# Altium integrated library NXP Semiconductors Cortex-M3.IntLib: 68 symbols (part 5 of 8)
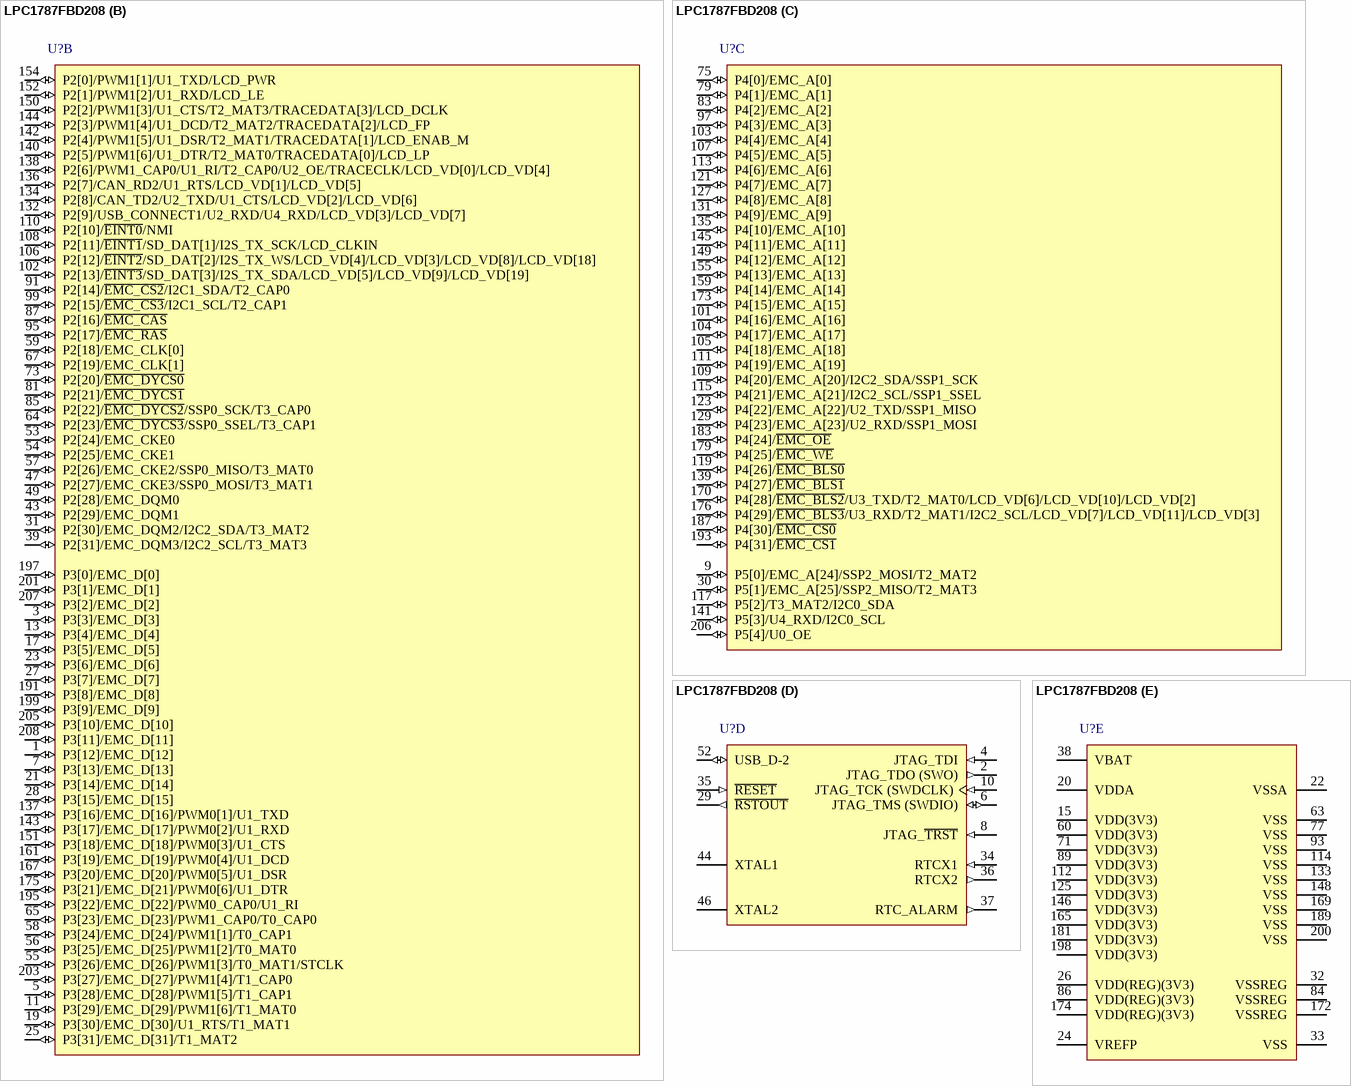
[diagram p53: symbol LPC1787FBD208]

## LPC1787FBD208
designator U?
32-bit ARM Cortex-M3 MCU, 512 kB Flash, 96 kB SRAM, 4 kB EEPROM, USB 2.0 Host/OTG/Device, CAN, 12-Bit ADC, LCD, SD/MMC, QEI, 208-Pin LQFP; fmax: 120 MHz; SRAM: 96 kB; Flash: 512 kB; EEPROM: 4 kB; GPIOs: 165; USB: 1; CAN: 2; UART: 5; I2C: 3; PWM: 6; PLL: Y; ADC channels: 8; Timers: 4; VDD (min): 2.4 V; VDD (typ): 3.3 V; VDD (max): 3.6 V; Code_IEC: 136E30; DatasheetVersion: Rev. 3, Dec-2011; PackageVersion: Feb-2003; PackageReference: SOT459-1; PackageDescription: LQFP208; Plastic Low Profile Quad Flat Package; 208 Leads; Body 28 x 28 x 1.4 mm; SSP: 3; Code_JEDEC: MS-026; ComponentLink1Description: Manufacturer URL; ComponentLink1URL: http://www.nxp.com/; ComponentLink2Description: Datasheet; ComponentLink2URL: http://www.nxp.com/documents/data_sheet/LPC178X_7X.pdf
footprint SOT459-1_V (Thin QFP, 208-Leads, Body 28x28mm, Pitch 0.5mm, NXP Recommended)
footprint SOT459-1_N (Thin QFP, 208-Leads, Body 28x28mm, Pitch 0.5mm, IPC Medium Density)
footprint SOT459-1_L (Thin QFP, 208-Leads, Body 28x28mm, Pitch 0.5mm, IPC High Density)
footprint SOT459-1_M (Thin QFP, 208-Leads, Body 28x28mm, Pitch 0.5mm, IPC Low Density)
part A pins: 12 P0[26]/ADC0_IN[3]/DAC_OUT/U3_RXD (io), 14 P0[25]/ADC0_IN[2]/I2S_RX_SDA/U3_TXD (io), 16 P0[24]/ADC0_IN[1]/I2S_RX_WS/T3_CAP1 (io), 18 P0[23]/ADC0_IN[0]/I2S_RX_SCK/T3_CAP0 (io), 40 P1[31]/~{USB_OVRCR2}/SSP1_SCK/ADC0_IN[5]/I2C0_SCL (io), 41 P0[12]/USB_PPWR2/SSP1_MISO/ADC0_IN[6] (io), 42 P1[30]/USB_PWRD2/USB_VBUS/ADC0_IN[4]/I2C0_SDA/U3_OE (io), 45 P0[13]/USB_UP_LED2/SSP1_MOSI/ADC0_IN[7] (io), 48 P0[28]/I2C0_SCL/USB_SCL1 (io), 50 P0[27]/I2C0_SDA/USB_SDA1 (io), 51 P0[31]/USB_D+2 (io), 61 P0[29]/USB_D+1/~{EINT0} (io), 62 P0[30]/USB_D-1/~{EINT1} (io), 66 P1[18]/USB_UP_LED1/PWM1[1]/T1_CAP0/SSP1_MISO (io), 68 P1[19]/~{USB_TX_E1}/~{USB_PPWR1}/T1_CAP1/MC_0A/SSP1_SCK/U2_OE (io), 69 P0[14]/USB_HSTEN2/SSP1_SSEL/USB_CONNECT2 (io), 70 P1[20]/USB_TX_DP1/PWM1[2]/QEI_PHA/MC_FB0/SSP0_SCK/LCD_VD[6]/LCD_VD[10] (io), 72 P1[21]/USB_TX_DM1/PWM1[3]/SSP0_SSEL/~{MC_ABORT}/LCD_VD[7]/LCD_VD[11] (io), 74 P1[22]/USB_RCV1/USB_PWRD1/T1_MAT0/MC_0B/SSP1_MOSI/LCD_VD[8]/LCD_VD[12] (io), 76 P1[23]/USB_RX_DP1/PWM1[4]/QEI_PHB/MC_FB1/SSP0_MISO/LCD_VD[9]/LCD_VD[13] (io), 78 P1[24]/USB_RX_DM1/PWM1[5]/QEI_IDX/MC_FB2/SSP0_MOSI/LCD_VD[10]/LCD_VD[14] (io), 80 P1[25]/~{USB_LS1}/~{USB_HSTEN1}/T1_MAT1/MC_1A/CLKOUT/LCD_VD[11]/LCD_VD[15] (io), 82 P1[26]/USB_SSPND1/PWM1[6]/T0_CAP0/MC_1B/SSP1_SSEL/LCD_VD[12]/LCD_VD[20] (io), 88 P1[27]/~{USB_INT1}/~{USB_OVRCR1}/T0_CAP1/CLKOUT/LCD_VD[13]/LCD_VD[21] (io), 90 P1[28]/USB_SCL1/PWM1_CAP0/T0_MAT0/MC_2A/SSP0_SSEL/LCD_VD[14]/LCD_VD[22] (io), 92 P1[29]/USB_SDA1/PWM1_CAP1/T0_MAT1/MC_2B/U4_TXD/LCD_VD[15]/LCD_VD[23] (io), 94 P0[0]/CAN_RD1/U3_TXD/I2C1_SDA/U0_TXD (io), 96 P0[1]/CAN_TD1/U3_RXD/I2C1_SCL/U0_RXD (io), 98 P0[10]/U2_TXD/I2C2_SDA/T3_MAT0 (io), 100 P0[11]/U2_RXD/I2C2_SCL/T3_MAT1 (io), 116 P0[22]/U1_RTS/SD_DAT[0]/U4_TXD/CAN_TD1 (io), 118 P0[21]/U1_RI/SD_PWR/U4_OE/CAN_RD1/U4_SCLK (io), 120 P0[20]/U1_DTR/UART1/SD_CMD/I2C1_SCL (io), 122 P0[19]/U1_DSR/SD_CLK/I2C1_SDA (io), 124 P0[18]/U1_DCD/SSP0_MOSI (io), 126 P0[17]/U1_CTS/SSP0_MISO (io), 128 P0[15]/U1_TXD/SSP0_SCK (io), 130 P0[16]/U1_RXD/SSP0_SSEL (io), 147 P1[13] (io), 153 P1[7]/SD_DAT[1]/PWM0[5] (io), 156 P1[5]/SD_PWR/PWM0[3] (io), 157 P1[12]/SD_DAT[3]/PWM0_CAP0 (io), 158 P0[9]/I2S_TX_SDA/SSP1_MOSI/T2_MAT3/RTC_EV2/LCD_VD[17] (io), 160 P0[8]/I2S_TX_WS/SSP1_MISO/T2_MAT2/RTC_EV1/LCD_VD[16] (io), 162 P0[7]/I2S_TX_SCK/SSP1_SCK/T2_MAT1/RTC_EV0/LCD_VD[9] (io), 163 P1[11]/SD_DAT[2]/PWM0[6] (io), 164 P0[6]/I2S_RX_SDA/SSP1_SSEL/T2_MAT0/U1_RTS/LCD_VD[8] (io), 166 P0[5]/I2S_RX_WS/CAN_TD2/T2_CAP1/LCD_VD[1] (io), 168 P0[4]/I2S_RX_SCK/CAN_RD2/T2_CAP0/LCD_VD[0] (io), 171 P1[6]/SD_DAT[0]/PWM0[4] (io), 177 P1[3]/SD_CMD/PWM0[2] (io), 178 P1[17]/I2S_RX_MCLK (io), 180 P1[16]/I2S_TX_MCLK (io), 182 P1[15]/I2C2_SDA (io), 184 P1[14]/T2_CAP0 (io), 185 P1[2]/SD_CLK/PWM0[1] (io), 186 P1[10]/T3_CAP0 (io), 188 P1[9]/T3_MAT0 (io), 190 P1[8]/T3_MAT1/SSP2_SSEL (io), 192 P1[4]/T3_MAT2/SSP2_MISO (io), 194 P1[1]/T3_MAT3/SSP2_MOSI (io), 196 P1[0]/T3_CAP1/SSP2_SCK (io), 202 P0[2]/U0_TXD/U3_TXD (io), 204 P0[3]/U0_RXD/U3_RXD (io)
part B pins: 1 P3[12]/EMC_D[12] (io), 3 P3[3]/EMC_D[3] (io), 5 P3[28]/EMC_D[28]/PWM1[5]/T1_CAP1 (io), 7 P3[13]/EMC_D[13] (io), 11 P3[29]/EMC_D[29]/PWM1[6]/T1_MAT0 (io), 13 P3[4]/EMC_D[4] (io), 17 P3[5]/EMC_D[5] (io), 19 P3[30]/EMC_D[30]/U1_RTS/T1_MAT1 (io), 21 P3[14]/EMC_D[14] (io), 23 P3[6]/EMC_D[6] (io), 25 P3[31]/EMC_D[31]/T1_MAT2 (io), 27 P3[7]/EMC_D[7] (io), 28 P3[15]/EMC_D[15] (io), 31 P2[30]/EMC_DQM2/I2C2_SDA/T3_MAT2 (io), 39 P2[31]/EMC_DQM3/I2C2_SCL/T3_MAT3 (io), 43 P2[29]/EMC_DQM1 (io), 47 P2[27]/EMC_CKE3/SSP0_MOSI/T3_MAT1 (io), 49 P2[28]/EMC_DQM0 (io), 53 P2[24]/EMC_CKE0 (io), 54 P2[25]/EMC_CKE1 (io), 55 P3[26]/EMC_D[26]/PWM1[3]/T0_MAT1/STCLK (io), 56 P3[25]/EMC_D[25]/PWM1[2]/T0_MAT0 (io), 57 P2[26]/EMC_CKE2/SSP0_MISO/T3_MAT0 (io), 58 P3[24]/EMC_D[24]/PWM1[1]/T0_CAP1 (io), 59 P2[18]/EMC_CLK[0] (io), 64 P2[23]/~{EMC_DYCS3}/SSP0_SSEL/T3_CAP1 (io), 65 P3[23]/EMC_D[23]/PWM1_CAP0/T0_CAP0 (io), 67 P2[19]/EMC_CLK[1] (io), 73 P2[20]/~{EMC_DYCS0} (io), 81 P2[21]/~{EMC_DYCS1} (io), 85 P2[22]/~{EMC_DYCS2}/SSP0_SCK/T3_CAP0 (io), 87 P2[16]/~{EMC_CAS} (io), 91 P2[14]/~{EMC_CS2}/I2C1_SDA/T2_CAP0 (io), 95 P2[17]/~{EMC_RAS} (io), 99 P2[15]/~{EMC_CS3}/I2C1_SCL/T2_CAP1 (io), 102 P2[13]/~{EINT3}/SD_DAT[3]/I2S_TX_SDA/LCD_VD[5]/LCD_VD[9]/LCD_VD[19] (io), 106 P2[12]/~{EINT2}/SD_DAT[2]/I2S_TX_WS/LCD_VD[4]/LCD_VD[3]/LCD_VD[8]/LCD_VD[18] (io), 108 P2[11]/~{EINT1}/SD_DAT[1]/I2S_TX_SCK/LCD_CLKIN (io), 110 P2[10]/~{EINT0}/NMI (io), 132 P2[9]/USB_CONNECT1/U2_RXD/U4_RXD/LCD_VD[3]/LCD_VD[7] (io), 134 P2[8]/CAN_TD2/U2_TXD/U1_CTS/LCD_VD[2]/LCD_VD[6] (io), 136 P2[7]/CAN_RD2/U1_RTS/LCD_VD[1]/LCD_VD[5] (io), 137 P3[16]/EMC_D[16]/PWM0[1]/U1_TXD (io), 138 P2[6]/PWM1_CAP0/U1_RI/T2_CAP0/U2_OE/TRACECLK/LCD_VD[0]/LCD_VD[4] (io), 140 P2[5]/PWM1[6]/U1_DTR/T2_MAT0/TRACEDATA[0]/LCD_LP (io), 142 P2[4]/PWM1[5]/U1_DSR/T2_MAT1/TRACEDATA[1]/LCD_ENAB_M (io), 143 P3[17]/EMC_D[17]/PWM0[2]/U1_RXD (io), 144 P2[3]/PWM1[4]/U1_DCD/T2_MAT2/TRACEDATA[2]/LCD_FP (io), 150 P2[2]/PWM1[3]/U1_CTS/T2_MAT3/TRACEDATA[3]/LCD_DCLK (io), 151 P3[18]/EMC_D[18]/PWM0[3]/U1_CTS (io), 152 P2[1]/PWM1[2]/U1_RXD/LCD_LE (io), 154 P2[0]/PWM1[1]/U1_TXD/LCD_PWR (io), 161 P3[19]/EMC_D[19]/PWM0[4]/U1_DCD (io), 167 P3[20]/EMC_D[20]/PWM0[5]/U1_DSR (io), 175 P3[21]/EMC_D[21]/PWM0[6]/U1_DTR (io), 191 P3[8]/EMC_D[8] (io), 195 P3[22]/EMC_D[22]/PWM0_CAP0/U1_RI (io), 197 P3[0]/EMC_D[0] (io), 199 P3[9]/EMC_D[9] (io), 201 P3[1]/EMC_D[1] (io), 203 P3[27]/EMC_D[27]/PWM1[4]/T1_CAP0 (io), 205 P3[10]/EMC_D[10] (io), 207 P3[2]/EMC_D[2] (io), 208 P3[11]/EMC_D[11] (io)
part C pins: 9 P5[0]/EMC_A[24]/SSP2_MOSI/T2_MAT2 (io), 30 P5[1]/EMC_A[25]/SSP2_MISO/T2_MAT3 (io), 75 P4[0]/EMC_A[0] (io), 79 P4[1]/EMC_A[1] (io), 83 P4[2]/EMC_A[2] (io), 97 P4[3]/EMC_A[3] (io), 101 P4[16]/EMC_A[16] (io), 103 P4[4]/EMC_A[4] (io), 104 P4[17]/EMC_A[17] (io), 105 P4[18]/EMC_A[18] (io), 107 P4[5]/EMC_A[5] (io), 109 P4[20]/EMC_A[20]/I2C2_SDA/SSP1_SCK (io), 111 P4[19]/EMC_A[19] (io), 113 P4[6]/EMC_A[6] (io), 115 P4[21]/EMC_A[21]/I2C2_SCL/SSP1_SSEL (io), 117 P5[2]/T3_MAT2/I2C0_SDA (io), 119 P4[26]/~{EMC_BLS0} (io), 121 P4[7]/EMC_A[7] (io), 123 P4[22]/EMC_A[22]/U2_TXD/SSP1_MISO (io), 127 P4[8]/EMC_A[8] (io), 129 P4[23]/EMC_A[23]/U2_RXD/SSP1_MOSI (io), 131 P4[9]/EMC_A[9] (io), 135 P4[10]/EMC_A[10] (io), 139 P4[27]/~{EMC_BLS1} (io), 141 P5[3]/U4_RXD/I2C0_SCL (io), 145 P4[11]/EMC_A[11] (io), 149 P4[12]/EMC_A[12] (io), 155 P4[13]/EMC_A[13] (io), 159 P4[14]/EMC_A[14] (io), 170 P4[28]/~{EMC_BLS2}/U3_TXD/T2_MAT0/LCD_VD[6]/LCD_VD[10]/LCD_VD[2] (io), 173 P4[15]/EMC_A[15] (io), 176 P4[29]/~{EMC_BLS3}/U3_RXD/T2_MAT1/I2C2_SCL/LCD_VD[7]/LCD_VD[11]/LCD_VD[3] (io), 179 P4[25]/~{EMC_WE} (io), 183 P4[24]/~{EMC_OE} (io), 187 P4[30]/~{EMC_CS0} (io), 193 P4[31]/~{EMC_CS1} (io), 206 P5[4]/U0_OE (io)
part D pins: 2 JTAG_TDO (SWO) (out), 4 JTAG_TDI (in), 6 JTAG_TMS (SWDIO) (io), 8 JTAG_~{TRST} (in), 10 JTAG_TCK (SWDCLK) (in), 29 ~{RSTOUT} (out), 34 RTCX1 (in), 35 ~{RESET} (in), 36 RTCX2 (out), 37 RTC_ALARM (out), 44 XTAL1, 46 XTAL2, 52 USB_D-2 (io)
part E pins: 15 VDD(3V3) (power), 20 VDDA (power), 22 VSSA (power), 24 VREFP (power), 26 VDD(REG)(3V3) (power), 32 VSSREG (power), 33 VSS (power), 38 VBAT (power), 60 VDD(3V3) (power), 63 VSS (power), 71 VDD(3V3) (power), 77 VSS (power), 84 VSSREG (power), 86 VDD(REG)(3V3) (power), 89 VDD(3V3) (power), 93 VSS (power), 112 VDD(3V3) (power), 114 VSS (power), 125 VDD(3V3) (power), 133 VSS (power), 146 VDD(3V3) (power), 148 VSS (power), 165 VDD(3V3) (power), 169 VSS (power), 172 VSSREG (power), 174 VDD(REG)(3V3) (power), 181 VDD(3V3) (power), 189 VSS (power), 198 VDD(3V3) (power), 200 VSS (power)

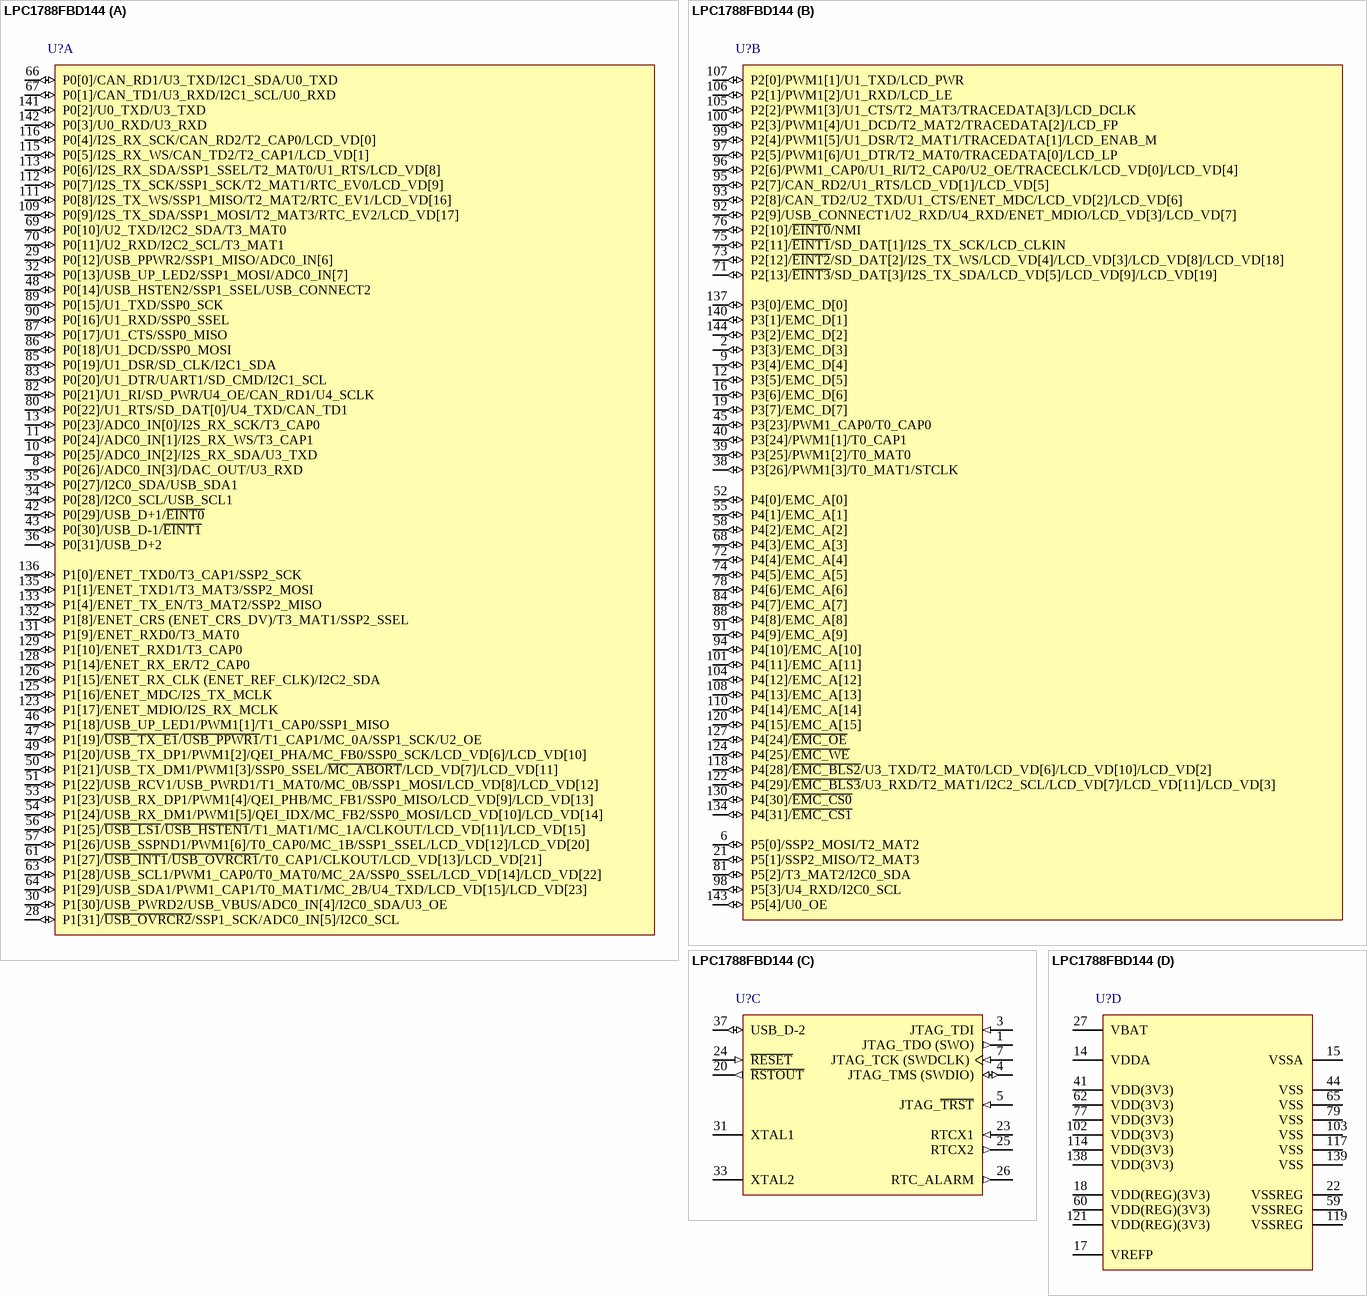
[diagram p27: symbol LPC1788FBD144]

## LPC1788FBD144
designator U?
32-bit ARM Cortex-M3 MCU, 512 kB Flash, 96 kB SRAM, 4 kB EEPROM, Ethernet, USB 2.0 Host/OTG/Device, CAN, 12-Bit ADC, LCD, SD/MMC, 144-Pin LQFP; fmax: 120 MHz; SRAM: 96 kB; Flash: 512 kB; EEPROM: 4 kB; GPIOs: 109; USB: 1; CAN: 2; UART: 5; I2C: 3; PWM: 6; PLL: Y; ADC channels: 8; Timers: 4; VDD (min): 2.4 V; VDD (typ): 3.3 V; VDD (max): 3.6 V; Code_IEC: 136E23; DatasheetVersion: Rev. 3, Dec-2011; PackageVersion: Feb-2003; PackageReference: SOT486-1; PackageDescription: LQFP144: Plastic Low Profile Quad Flat Package; 144 Leads; Body 20 x 20 x 1.4 mm; SSP: 3; Code_JEDEC: MS-026; ComponentLink1Description: Manufacturer URL; ComponentLink1URL: http://www.nxp.com/; ComponentLink2Description: Datasheet; ComponentLink2URL: http://www.nxp.com/documents/data_sheet/LPC178X_7X.pdf
footprint SOT486-1_V (Thin QFP, 144-Leads, Body 20x20mm, Pitch 0.5mm, NXP Recommended)
footprint SOT486-1_N (Thin QFP, 144-Leads, Body 20x20mm, Pitch 0.5mm, IPC Medium Density)
footprint SOT486-1_L (Thin QFP, 144-Leads, Body 20x20mm, Pitch 0.5mm, IPC High Density)
footprint SOT486-1_M (Thin QFP, 144-Leads, Body 20x20mm, Pitch 0.5mm, IPC Low Density)
part A pins: 8 P0[26]/ADC0_IN[3]/DAC_OUT/U3_RXD (io), 10 P0[25]/ADC0_IN[2]/I2S_RX_SDA/U3_TXD (io), 11 P0[24]/ADC0_IN[1]/I2S_RX_WS/T3_CAP1 (io), 13 P0[23]/ADC0_IN[0]/I2S_RX_SCK/T3_CAP0 (io), 28 P1[31]/~{USB_OVRCR2}/SSP1_SCK/ADC0_IN[5]/I2C0_SCL (io), 29 P0[12]/USB_PPWR2/SSP1_MISO/ADC0_IN[6] (io), 30 P1[30]/USB_PWRD2/USB_VBUS/ADC0_IN[4]/I2C0_SDA/U3_OE (io), 32 P0[13]/USB_UP_LED2/SSP1_MOSI/ADC0_IN[7] (io), 34 P0[28]/I2C0_SCL/USB_SCL1 (io), 35 P0[27]/I2C0_SDA/USB_SDA1 (io), 36 P0[31]/USB_D+2 (io), 42 P0[29]/USB_D+1/~{EINT0} (io), 43 P0[30]/USB_D-1/~{EINT1} (io), 46 P1[18]/USB_UP_LED1/PWM1[1]/T1_CAP0/SSP1_MISO (io), 47 P1[19]/~{USB_TX_E1}/~{USB_PPWR1}/T1_CAP1/MC_0A/SSP1_SCK/U2_OE (io), 48 P0[14]/USB_HSTEN2/SSP1_SSEL/USB_CONNECT2 (io), 49 P1[20]/USB_TX_DP1/PWM1[2]/QEI_PHA/MC_FB0/SSP0_SCK/LCD_VD[6]/LCD_VD[10] (io), 50 P1[21]/USB_TX_DM1/PWM1[3]/SSP0_SSEL/~{MC_ABORT}/LCD_VD[7]/LCD_VD[11] (io), 51 P1[22]/USB_RCV1/USB_PWRD1/T1_MAT0/MC_0B/SSP1_MOSI/LCD_VD[8]/LCD_VD[12] (io), 53 P1[23]/USB_RX_DP1/PWM1[4]/QEI_PHB/MC_FB1/SSP0_MISO/LCD_VD[9]/LCD_VD[13] (io), 54 P1[24]/USB_RX_DM1/PWM1[5]/QEI_IDX/MC_FB2/SSP0_MOSI/LCD_VD[10]/LCD_VD[14] (io), 56 P1[25]/~{USB_LS1}/~{USB_HSTEN1}/T1_MAT1/MC_1A/CLKOUT/LCD_VD[11]/LCD_VD[15] (io), 57 P1[26]/USB_SSPND1/PWM1[6]/T0_CAP0/MC_1B/SSP1_SSEL/LCD_VD[12]/LCD_VD[20] (io), 61 P1[27]/~{USB_INT1}/~{USB_OVRCR1}/T0_CAP1/CLKOUT/LCD_VD[13]/LCD_VD[21] (io), 63 P1[28]/USB_SCL1/PWM1_CAP0/T0_MAT0/MC_2A/SSP0_SSEL/LCD_VD[14]/LCD_VD[22] (io), 64 P1[29]/USB_SDA1/PWM1_CAP1/T0_MAT1/MC_2B/U4_TXD/LCD_VD[15]/LCD_VD[23] (io), 66 P0[0]/CAN_RD1/U3_TXD/I2C1_SDA/U0_TXD (io), 67 P0[1]/CAN_TD1/U3_RXD/I2C1_SCL/U0_RXD (io), 69 P0[10]/U2_TXD/I2C2_SDA/T3_MAT0 (io), 70 P0[11]/U2_RXD/I2C2_SCL/T3_MAT1 (io), 80 P0[22]/U1_RTS/SD_DAT[0]/U4_TXD/CAN_TD1 (io), 82 P0[21]/U1_RI/SD_PWR/U4_OE/CAN_RD1/U4_SCLK (io), 83 P0[20]/U1_DTR/UART1/SD_CMD/I2C1_SCL (io), 85 P0[19]/U1_DSR/SD_CLK/I2C1_SDA (io), 86 P0[18]/U1_DCD/SSP0_MOSI (io), 87 P0[17]/U1_CTS/SSP0_MISO (io), 89 P0[15]/U1_TXD/SSP0_SCK (io), 90 P0[16]/U1_RXD/SSP0_SSEL (io), 109 P0[9]/I2S_TX_SDA/SSP1_MOSI/T2_MAT3/RTC_EV2/LCD_VD[17] (io), 111 P0[8]/I2S_TX_WS/SSP1_MISO/T2_MAT2/RTC_EV1/LCD_VD[16] (io), 112 P0[7]/I2S_TX_SCK/SSP1_SCK/T2_MAT1/RTC_EV0/LCD_VD[9] (io), 113 P0[6]/I2S_RX_SDA/SSP1_SSEL/T2_MAT0/U1_RTS/LCD_VD[8] (io), 115 P0[5]/I2S_RX_WS/CAN_TD2/T2_CAP1/LCD_VD[1] (io), 116 P0[4]/I2S_RX_SCK/CAN_RD2/T2_CAP0/LCD_VD[0] (io), 123 P1[17]/ENET_MDIO/I2S_RX_MCLK (io), 125 P1[16]/ENET_MDC/I2S_TX_MCLK (io), 126 P1[15]/ENET_RX_CLK (ENET_REF_CLK)/I2C2_SDA (io), 128 P1[14]/ENET_RX_ER/T2_CAP0 (io), 129 P1[10]/ENET_RXD1/T3_CAP0 (io), 131 P1[9]/ENET_RXD0/T3_MAT0 (io), 132 P1[8]/ENET_CRS (ENET_CRS_DV)/T3_MAT1/SSP2_SSEL (io), 133 P1[4]/ENET_TX_EN/T3_MAT2/SSP2_MISO (io), 135 P1[1]/ENET_TXD1/T3_MAT3/SSP2_MOSI (io), 136 P1[0]/ENET_TXD0/T3_CAP1/SSP2_SCK (io), 141 P0[2]/U0_TXD/U3_TXD (io), 142 P0[3]/U0_RXD/U3_RXD (io)
part B pins: 2 P3[3]/EMC_D[3] (io), 6 P5[0]/SSP2_MOSI/T2_MAT2 (io), 9 P3[4]/EMC_D[4] (io), 12 P3[5]/EMC_D[5] (io), 16 P3[6]/EMC_D[6] (io), 19 P3[7]/EMC_D[7] (io), 21 P5[1]/SSP2_MISO/T2_MAT3 (io), 38 P3[26]/PWM1[3]/T0_MAT1/STCLK (io), 39 P3[25]/PWM1[2]/T0_MAT0 (io), 40 P3[24]/PWM1[1]/T0_CAP1 (io), 45 P3[23]/PWM1_CAP0/T0_CAP0 (io), 52 P4[0]/EMC_A[0] (io), 55 P4[1]/EMC_A[1] (io), 58 P4[2]/EMC_A[2] (io), 68 P4[3]/EMC_A[3] (io), 71 P2[13]/~{EINT3}/SD_DAT[3]/I2S_TX_SDA/LCD_VD[5]/LCD_VD[9]/LCD_VD[19] (io), 72 P4[4]/EMC_A[4] (io), 73 P2[12]/~{EINT2}/SD_DAT[2]/I2S_TX_WS/LCD_VD[4]/LCD_VD[3]/LCD_VD[8]/LCD_VD[18] (io), 74 P4[5]/EMC_A[5] (io), 75 P2[11]/~{EINT1}/SD_DAT[1]/I2S_TX_SCK/LCD_CLKIN (io), 76 P2[10]/~{EINT0}/NMI (io), 78 P4[6]/EMC_A[6] (io), 81 P5[2]/T3_MAT2/I2C0_SDA (io), 84 P4[7]/EMC_A[7] (io), 88 P4[8]/EMC_A[8] (io), 91 P4[9]/EMC_A[9] (io), 92 P2[9]/USB_CONNECT1/U2_RXD/U4_RXD/ENET_MDIO/LCD_VD[3]/LCD_VD[7] (io), 93 P2[8]/CAN_TD2/U2_TXD/U1_CTS/ENET_MDC/LCD_VD[2]/LCD_VD[6] (io), 94 P4[10]/EMC_A[10] (io), 95 P2[7]/CAN_RD2/U1_RTS/LCD_VD[1]/LCD_VD[5] (io), 96 P2[6]/PWM1_CAP0/U1_RI/T2_CAP0/U2_OE/TRACECLK/LCD_VD[0]/LCD_VD[4] (io), 97 P2[5]/PWM1[6]/U1_DTR/T2_MAT0/TRACEDATA[0]/LCD_LP (io), 98 P5[3]/U4_RXD/I2C0_SCL (io), 99 P2[4]/PWM1[5]/U1_DSR/T2_MAT1/TRACEDATA[1]/LCD_ENAB_M (io), 100 P2[3]/PWM1[4]/U1_DCD/T2_MAT2/TRACEDATA[2]/LCD_FP (io), 101 P4[11]/EMC_A[11] (io), 104 P4[12]/EMC_A[12] (io), 105 P2[2]/PWM1[3]/U1_CTS/T2_MAT3/TRACEDATA[3]/LCD_DCLK (io), 106 P2[1]/PWM1[2]/U1_RXD/LCD_LE (io), 107 P2[0]/PWM1[1]/U1_TXD/LCD_PWR (io), 108 P4[13]/EMC_A[13] (io), 110 P4[14]/EMC_A[14] (io), 118 P4[28]/~{EMC_BLS2}/U3_TXD/T2_MAT0/LCD_VD[6]/LCD_VD[10]/LCD_VD[2] (io), 120 P4[15]/EMC_A[15] (io), 122 P4[29]/~{EMC_BLS3}/U3_RXD/T2_MAT1/I2C2_SCL/LCD_VD[7]/LCD_VD[11]/LCD_VD[3] (io), 124 P4[25]/~{EMC_WE} (io), 127 P4[24]/~{EMC_OE} (io), 130 P4[30]/~{EMC_CS0} (io), 134 P4[31]/~{EMC_CS1} (io), 137 P3[0]/EMC_D[0] (io), 140 P3[1]/EMC_D[1] (io), 143 P5[4]/U0_OE (io), 144 P3[2]/EMC_D[2] (io)
part C pins: 1 JTAG_TDO (SWO) (out), 3 JTAG_TDI (in), 4 JTAG_TMS (SWDIO) (io), 5 JTAG_~{TRST} (in), 7 JTAG_TCK (SWDCLK) (in), 20 ~{RSTOUT} (out), 23 RTCX1 (in), 24 ~{RESET} (in), 25 RTCX2 (out), 26 RTC_ALARM (out), 31 XTAL1, 33 XTAL2, 37 USB_D-2 (io)
part D pins: 14 VDDA (power), 15 VSSA (power), 17 VREFP (power), 18 VDD(REG)(3V3) (power), 22 VSSREG (power), 27 VBAT (power), 41 VDD(3V3) (power), 44 VSS (power), 59 VSSREG (power), 60 VDD(REG)(3V3) (power), 62 VDD(3V3) (power), 65 VSS (power), 77 VDD(3V3) (power), 79 VSS (power), 102 VDD(3V3) (power), 103 VSS (power), 114 VDD(3V3) (power), 117 VSS (power), 119 VSSREG (power), 121 VDD(REG)(3V3) (power), 138 VDD(3V3) (power), 139 VSS (power)

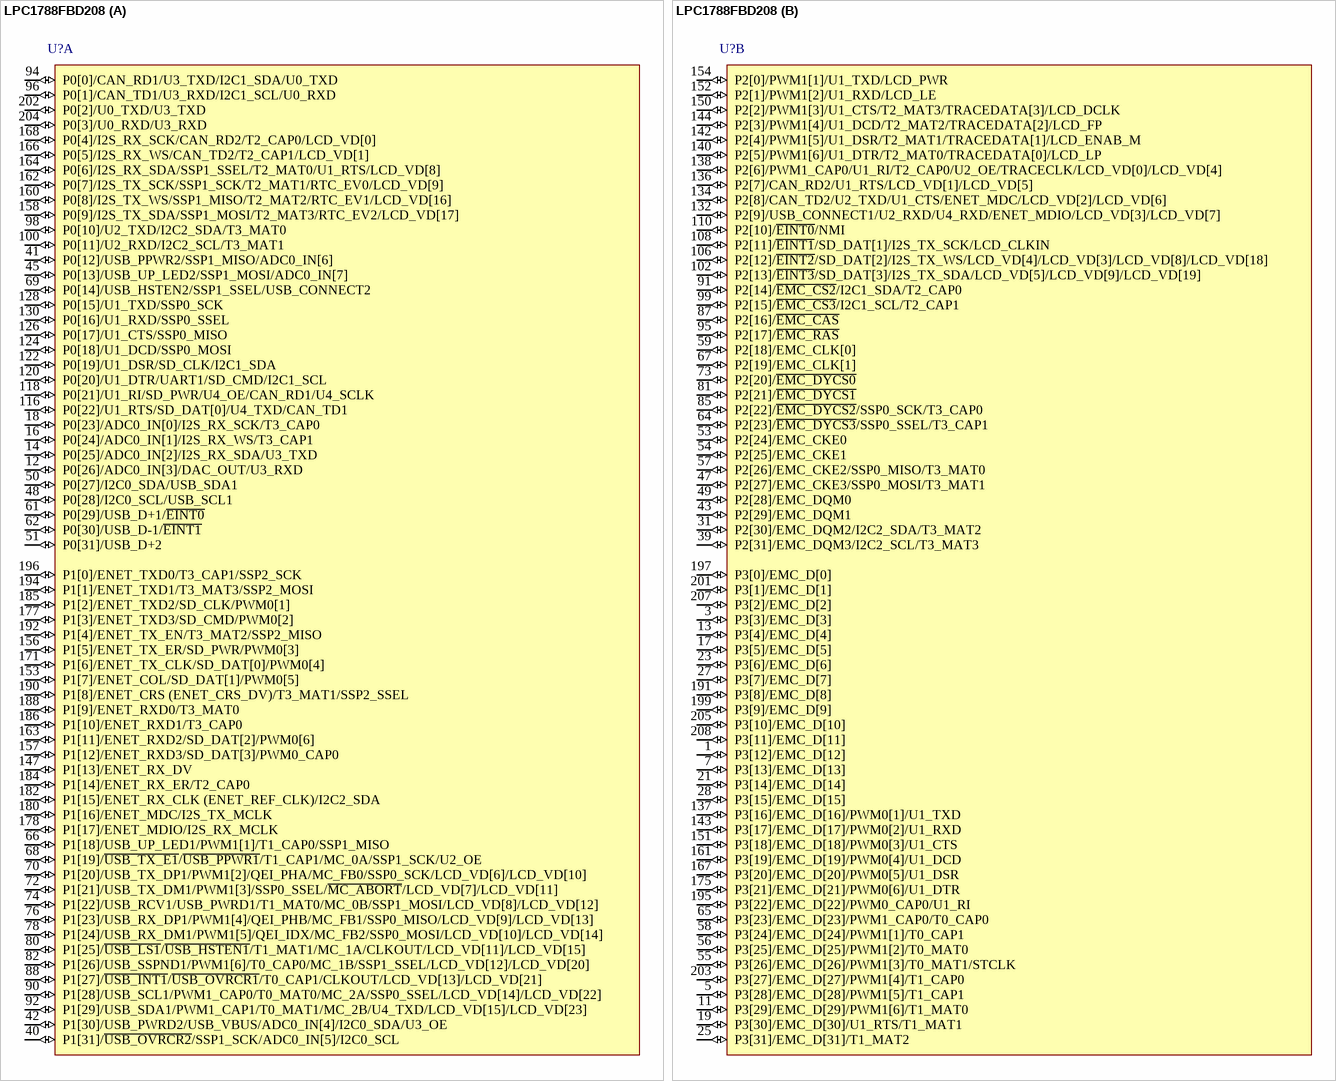
[diagram p28: symbol LPC1788FBD208]

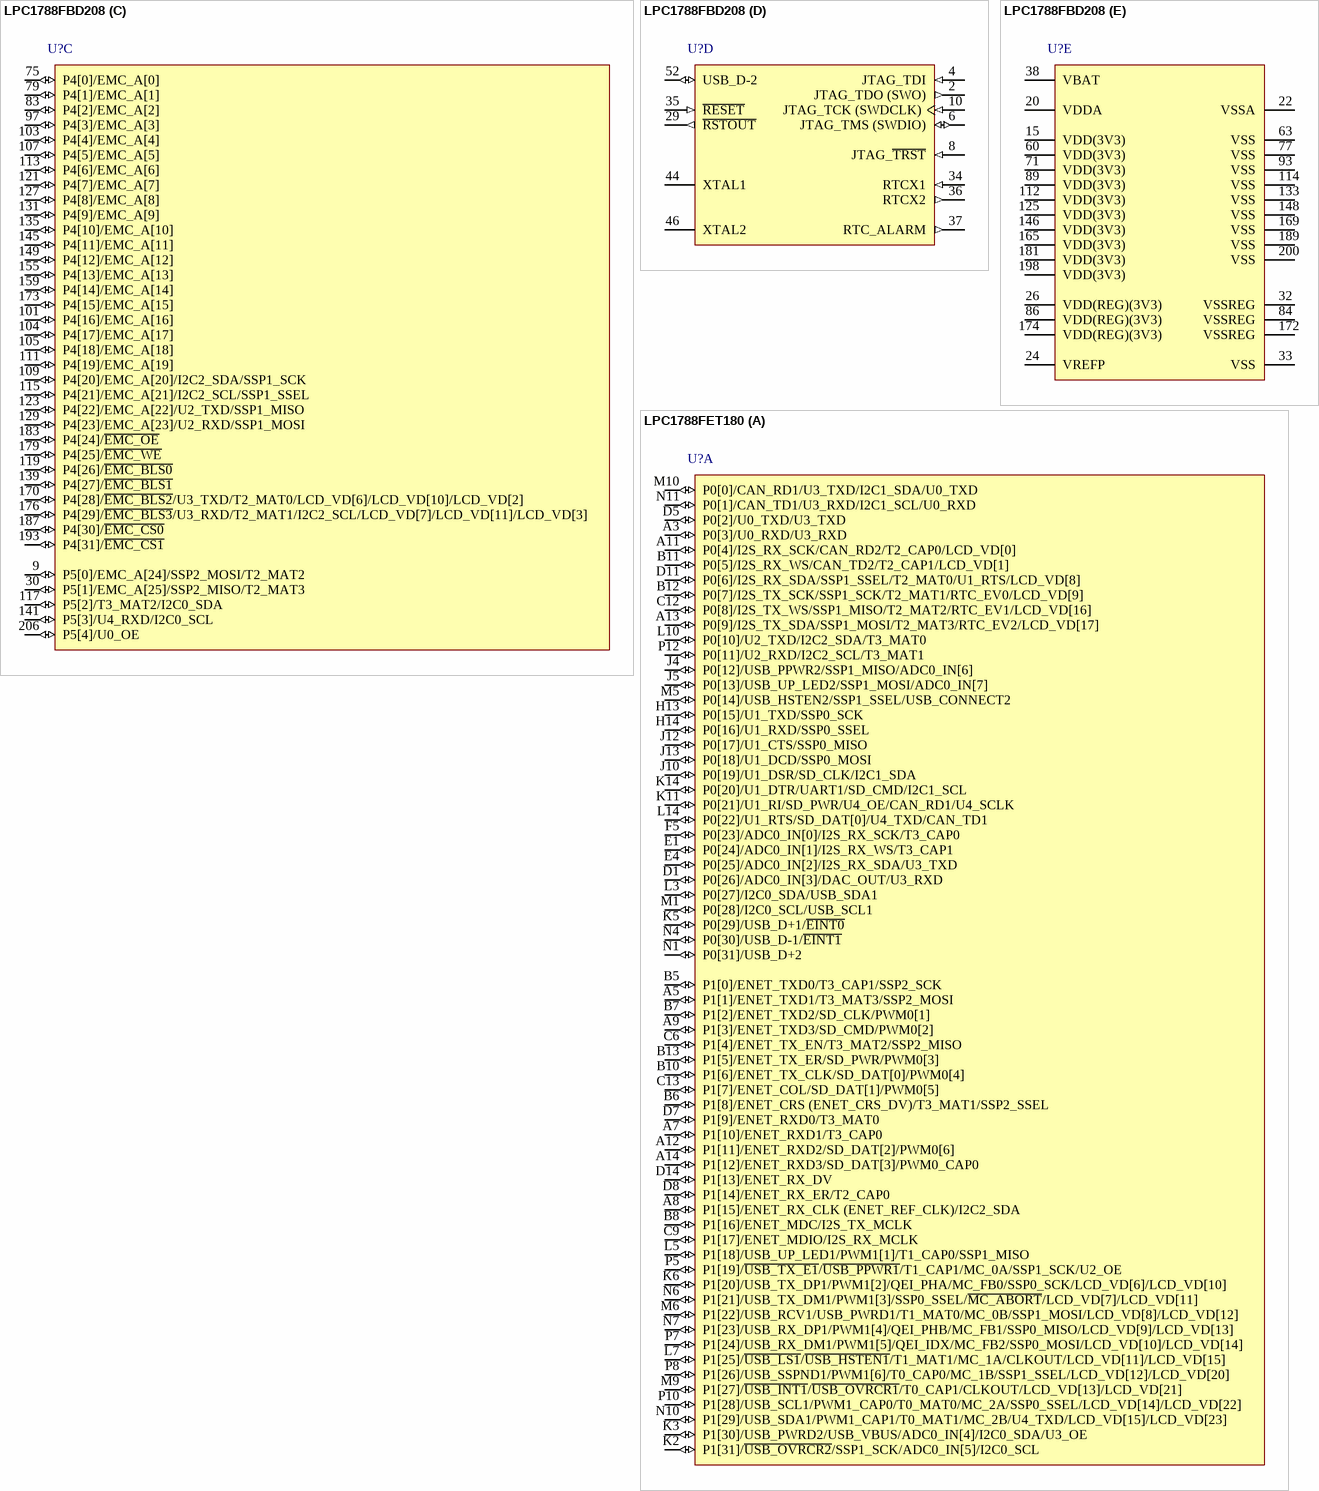
[diagram p29: symbols LPC1788FBD208 to LPC1788FET180]

## LPC1788FBD208
designator U?
32-bit ARM Cortex-M3 MCU, 512 kB Flash, 96 kB SRAM, 4 kB EEPROM, Ethernet, USB 2.0 Host/OTG/Device, CAN, 12-Bit ADC, LCD, SD/MMC, 208-Pin LQFP; fmax: 120 MHz; SRAM: 96 kB; Flash: 512 kB; EEPROM: 4 kB; GPIOs: 165; USB: 1; CAN: 2; UART: 5; I2C: 3; PWM: 6; PLL: Y; ADC channels: 8; Timers: 4; VDD (min): 2.4 V; VDD (typ): 3.3 V; VDD (max): 3.6 V; Code_IEC: 136E30; DatasheetVersion: Rev. 3, Dec-2011; PackageVersion: Feb-2003; PackageReference: SOT459-1; PackageDescription: LQFP208; Plastic Low Profile Quad Flat Package; 208 Leads; Body 28 x 28 x 1.4 mm; SSP: 3; Code_JEDEC: MS-026; ComponentLink1Description: Manufacturer URL; ComponentLink1URL: http://www.nxp.com/; ComponentLink2Description: Datasheet; ComponentLink2URL: http://www.nxp.com/documents/data_sheet/LPC178X_7X.pdf
footprint SOT459-1_V (Thin QFP, 208-Leads, Body 28x28mm, Pitch 0.5mm, NXP Recommended)
footprint SOT459-1_N (Thin QFP, 208-Leads, Body 28x28mm, Pitch 0.5mm, IPC Medium Density)
footprint SOT459-1_L (Thin QFP, 208-Leads, Body 28x28mm, Pitch 0.5mm, IPC High Density)
footprint SOT459-1_M (Thin QFP, 208-Leads, Body 28x28mm, Pitch 0.5mm, IPC Low Density)
part A pins: 12 P0[26]/ADC0_IN[3]/DAC_OUT/U3_RXD (io), 14 P0[25]/ADC0_IN[2]/I2S_RX_SDA/U3_TXD (io), 16 P0[24]/ADC0_IN[1]/I2S_RX_WS/T3_CAP1 (io), 18 P0[23]/ADC0_IN[0]/I2S_RX_SCK/T3_CAP0 (io), 40 P1[31]/~{USB_OVRCR2}/SSP1_SCK/ADC0_IN[5]/I2C0_SCL (io), 41 P0[12]/USB_PPWR2/SSP1_MISO/ADC0_IN[6] (io), 42 P1[30]/USB_PWRD2/USB_VBUS/ADC0_IN[4]/I2C0_SDA/U3_OE (io), 45 P0[13]/USB_UP_LED2/SSP1_MOSI/ADC0_IN[7] (io), 48 P0[28]/I2C0_SCL/USB_SCL1 (io), 50 P0[27]/I2C0_SDA/USB_SDA1 (io), 51 P0[31]/USB_D+2 (io), 61 P0[29]/USB_D+1/~{EINT0} (io), 62 P0[30]/USB_D-1/~{EINT1} (io), 66 P1[18]/USB_UP_LED1/PWM1[1]/T1_CAP0/SSP1_MISO (io), 68 P1[19]/~{USB_TX_E1}/~{USB_PPWR1}/T1_CAP1/MC_0A/SSP1_SCK/U2_OE (io), 69 P0[14]/USB_HSTEN2/SSP1_SSEL/USB_CONNECT2 (io), 70 P1[20]/USB_TX_DP1/PWM1[2]/QEI_PHA/MC_FB0/SSP0_SCK/LCD_VD[6]/LCD_VD[10] (io), 72 P1[21]/USB_TX_DM1/PWM1[3]/SSP0_SSEL/~{MC_ABORT}/LCD_VD[7]/LCD_VD[11] (io), 74 P1[22]/USB_RCV1/USB_PWRD1/T1_MAT0/MC_0B/SSP1_MOSI/LCD_VD[8]/LCD_VD[12] (io), 76 P1[23]/USB_RX_DP1/PWM1[4]/QEI_PHB/MC_FB1/SSP0_MISO/LCD_VD[9]/LCD_VD[13] (io), 78 P1[24]/USB_RX_DM1/PWM1[5]/QEI_IDX/MC_FB2/SSP0_MOSI/LCD_VD[10]/LCD_VD[14] (io), 80 P1[25]/~{USB_LS1}/~{USB_HSTEN1}/T1_MAT1/MC_1A/CLKOUT/LCD_VD[11]/LCD_VD[15] (io), 82 P1[26]/USB_SSPND1/PWM1[6]/T0_CAP0/MC_1B/SSP1_SSEL/LCD_VD[12]/LCD_VD[20] (io), 88 P1[27]/~{USB_INT1}/~{USB_OVRCR1}/T0_CAP1/CLKOUT/LCD_VD[13]/LCD_VD[21] (io), 90 P1[28]/USB_SCL1/PWM1_CAP0/T0_MAT0/MC_2A/SSP0_SSEL/LCD_VD[14]/LCD_VD[22] (io), 92 P1[29]/USB_SDA1/PWM1_CAP1/T0_MAT1/MC_2B/U4_TXD/LCD_VD[15]/LCD_VD[23] (io), 94 P0[0]/CAN_RD1/U3_TXD/I2C1_SDA/U0_TXD (io), 96 P0[1]/CAN_TD1/U3_RXD/I2C1_SCL/U0_RXD (io), 98 P0[10]/U2_TXD/I2C2_SDA/T3_MAT0 (io), 100 P0[11]/U2_RXD/I2C2_SCL/T3_MAT1 (io), 116 P0[22]/U1_RTS/SD_DAT[0]/U4_TXD/CAN_TD1 (io), 118 P0[21]/U1_RI/SD_PWR/U4_OE/CAN_RD1/U4_SCLK (io), 120 P0[20]/U1_DTR/UART1/SD_CMD/I2C1_SCL (io), 122 P0[19]/U1_DSR/SD_CLK/I2C1_SDA (io), 124 P0[18]/U1_DCD/SSP0_MOSI (io), 126 P0[17]/U1_CTS/SSP0_MISO (io), 128 P0[15]/U1_TXD/SSP0_SCK (io), 130 P0[16]/U1_RXD/SSP0_SSEL (io), 147 P1[13]/ENET_RX_DV (io), 153 P1[7]/ENET_COL/SD_DAT[1]/PWM0[5] (io), 156 P1[5]/ENET_TX_ER/SD_PWR/PWM0[3] (io), 157 P1[12]/ENET_RXD3/SD_DAT[3]/PWM0_CAP0 (io), 158 P0[9]/I2S_TX_SDA/SSP1_MOSI/T2_MAT3/RTC_EV2/LCD_VD[17] (io), 160 P0[8]/I2S_TX_WS/SSP1_MISO/T2_MAT2/RTC_EV1/LCD_VD[16] (io), 162 P0[7]/I2S_TX_SCK/SSP1_SCK/T2_MAT1/RTC_EV0/LCD_VD[9] (io), 163 P1[11]/ENET_RXD2/SD_DAT[2]/PWM0[6] (io), 164 P0[6]/I2S_RX_SDA/SSP1_SSEL/T2_MAT0/U1_RTS/LCD_VD[8] (io), 166 P0[5]/I2S_RX_WS/CAN_TD2/T2_CAP1/LCD_VD[1] (io), 168 P0[4]/I2S_RX_SCK/CAN_RD2/T2_CAP0/LCD_VD[0] (io), 171 P1[6]/ENET_TX_CLK/SD_DAT[0]/PWM0[4] (io), 177 P1[3]/ENET_TXD3/SD_CMD/PWM0[2] (io), 178 P1[17]/ENET_MDIO/I2S_RX_MCLK (io), 180 P1[16]/ENET_MDC/I2S_TX_MCLK (io), 182 P1[15]/ENET_RX_CLK (ENET_REF_CLK)/I2C2_SDA (io), 184 P1[14]/ENET_RX_ER/T2_CAP0 (io), 185 P1[2]/ENET_TXD2/SD_CLK/PWM0[1] (io), 186 P1[10]/ENET_RXD1/T3_CAP0 (io), 188 P1[9]/ENET_RXD0/T3_MAT0 (io), 190 P1[8]/ENET_CRS (ENET_CRS_DV)/T3_MAT1/SSP2_SSEL (io), 192 P1[4]/ENET_TX_EN/T3_MAT2/SSP2_MISO (io), 194 P1[1]/ENET_TXD1/T3_MAT3/SSP2_MOSI (io), 196 P1[0]/ENET_TXD0/T3_CAP1/SSP2_SCK (io), 202 P0[2]/U0_TXD/U3_TXD (io), 204 P0[3]/U0_RXD/U3_RXD (io)
part B pins: 1 P3[12]/EMC_D[12] (io), 3 P3[3]/EMC_D[3] (io), 5 P3[28]/EMC_D[28]/PWM1[5]/T1_CAP1 (io), 7 P3[13]/EMC_D[13] (io), 11 P3[29]/EMC_D[29]/PWM1[6]/T1_MAT0 (io), 13 P3[4]/EMC_D[4] (io), 17 P3[5]/EMC_D[5] (io), 19 P3[30]/EMC_D[30]/U1_RTS/T1_MAT1 (io), 21 P3[14]/EMC_D[14] (io), 23 P3[6]/EMC_D[6] (io), 25 P3[31]/EMC_D[31]/T1_MAT2 (io), 27 P3[7]/EMC_D[7] (io), 28 P3[15]/EMC_D[15] (io), 31 P2[30]/EMC_DQM2/I2C2_SDA/T3_MAT2 (io), 39 P2[31]/EMC_DQM3/I2C2_SCL/T3_MAT3 (io), 43 P2[29]/EMC_DQM1 (io), 47 P2[27]/EMC_CKE3/SSP0_MOSI/T3_MAT1 (io), 49 P2[28]/EMC_DQM0 (io), 53 P2[24]/EMC_CKE0 (io), 54 P2[25]/EMC_CKE1 (io), 55 P3[26]/EMC_D[26]/PWM1[3]/T0_MAT1/STCLK (io), 56 P3[25]/EMC_D[25]/PWM1[2]/T0_MAT0 (io), 57 P2[26]/EMC_CKE2/SSP0_MISO/T3_MAT0 (io), 58 P3[24]/EMC_D[24]/PWM1[1]/T0_CAP1 (io), 59 P2[18]/EMC_CLK[0] (io), 64 P2[23]/~{EMC_DYCS3}/SSP0_SSEL/T3_CAP1 (io), 65 P3[23]/EMC_D[23]/PWM1_CAP0/T0_CAP0 (io), 67 P2[19]/EMC_CLK[1] (io), 73 P2[20]/~{EMC_DYCS0} (io), 81 P2[21]/~{EMC_DYCS1} (io), 85 P2[22]/~{EMC_DYCS2}/SSP0_SCK/T3_CAP0 (io), 87 P2[16]/~{EMC_CAS} (io), 91 P2[14]/~{EMC_CS2}/I2C1_SDA/T2_CAP0 (io), 95 P2[17]/~{EMC_RAS} (io), 99 P2[15]/~{EMC_CS3}/I2C1_SCL/T2_CAP1 (io), 102 P2[13]/~{EINT3}/SD_DAT[3]/I2S_TX_SDA/LCD_VD[5]/LCD_VD[9]/LCD_VD[19] (io), 106 P2[12]/~{EINT2}/SD_DAT[2]/I2S_TX_WS/LCD_VD[4]/LCD_VD[3]/LCD_VD[8]/LCD_VD[18] (io), 108 P2[11]/~{EINT1}/SD_DAT[1]/I2S_TX_SCK/LCD_CLKIN (io), 110 P2[10]/~{EINT0}/NMI (io), 132 P2[9]/USB_CONNECT1/U2_RXD/U4_RXD/ENET_MDIO/LCD_VD[3]/LCD_VD[7] (io), 134 P2[8]/CAN_TD2/U2_TXD/U1_CTS/ENET_MDC/LCD_VD[2]/LCD_VD[6] (io), 136 P2[7]/CAN_RD2/U1_RTS/LCD_VD[1]/LCD_VD[5] (io), 137 P3[16]/EMC_D[16]/PWM0[1]/U1_TXD (io), 138 P2[6]/PWM1_CAP0/U1_RI/T2_CAP0/U2_OE/TRACECLK/LCD_VD[0]/LCD_VD[4] (io), 140 P2[5]/PWM1[6]/U1_DTR/T2_MAT0/TRACEDATA[0]/LCD_LP (io), 142 P2[4]/PWM1[5]/U1_DSR/T2_MAT1/TRACEDATA[1]/LCD_ENAB_M (io), 143 P3[17]/EMC_D[17]/PWM0[2]/U1_RXD (io), 144 P2[3]/PWM1[4]/U1_DCD/T2_MAT2/TRACEDATA[2]/LCD_FP (io), 150 P2[2]/PWM1[3]/U1_CTS/T2_MAT3/TRACEDATA[3]/LCD_DCLK (io), 151 P3[18]/EMC_D[18]/PWM0[3]/U1_CTS (io), 152 P2[1]/PWM1[2]/U1_RXD/LCD_LE (io), 154 P2[0]/PWM1[1]/U1_TXD/LCD_PWR (io), 161 P3[19]/EMC_D[19]/PWM0[4]/U1_DCD (io), 167 P3[20]/EMC_D[20]/PWM0[5]/U1_DSR (io), 175 P3[21]/EMC_D[21]/PWM0[6]/U1_DTR (io), 191 P3[8]/EMC_D[8] (io), 195 P3[22]/EMC_D[22]/PWM0_CAP0/U1_RI (io), 197 P3[0]/EMC_D[0] (io), 199 P3[9]/EMC_D[9] (io), 201 P3[1]/EMC_D[1] (io), 203 P3[27]/EMC_D[27]/PWM1[4]/T1_CAP0 (io), 205 P3[10]/EMC_D[10] (io), 207 P3[2]/EMC_D[2] (io), 208 P3[11]/EMC_D[11] (io)
part C pins: 9 P5[0]/EMC_A[24]/SSP2_MOSI/T2_MAT2 (io), 30 P5[1]/EMC_A[25]/SSP2_MISO/T2_MAT3 (io), 75 P4[0]/EMC_A[0] (io), 79 P4[1]/EMC_A[1] (io), 83 P4[2]/EMC_A[2] (io), 97 P4[3]/EMC_A[3] (io), 101 P4[16]/EMC_A[16] (io), 103 P4[4]/EMC_A[4] (io), 104 P4[17]/EMC_A[17] (io), 105 P4[18]/EMC_A[18] (io), 107 P4[5]/EMC_A[5] (io), 109 P4[20]/EMC_A[20]/I2C2_SDA/SSP1_SCK (io), 111 P4[19]/EMC_A[19] (io), 113 P4[6]/EMC_A[6] (io), 115 P4[21]/EMC_A[21]/I2C2_SCL/SSP1_SSEL (io), 117 P5[2]/T3_MAT2/I2C0_SDA (io), 119 P4[26]/~{EMC_BLS0} (io), 121 P4[7]/EMC_A[7] (io), 123 P4[22]/EMC_A[22]/U2_TXD/SSP1_MISO (io), 127 P4[8]/EMC_A[8] (io), 129 P4[23]/EMC_A[23]/U2_RXD/SSP1_MOSI (io), 131 P4[9]/EMC_A[9] (io), 135 P4[10]/EMC_A[10] (io), 139 P4[27]/~{EMC_BLS1} (io), 141 P5[3]/U4_RXD/I2C0_SCL (io), 145 P4[11]/EMC_A[11] (io), 149 P4[12]/EMC_A[12] (io), 155 P4[13]/EMC_A[13] (io), 159 P4[14]/EMC_A[14] (io), 170 P4[28]/~{EMC_BLS2}/U3_TXD/T2_MAT0/LCD_VD[6]/LCD_VD[10]/LCD_VD[2] (io), 173 P4[15]/EMC_A[15] (io), 176 P4[29]/~{EMC_BLS3}/U3_RXD/T2_MAT1/I2C2_SCL/LCD_VD[7]/LCD_VD[11]/LCD_VD[3] (io), 179 P4[25]/~{EMC_WE} (io), 183 P4[24]/~{EMC_OE} (io), 187 P4[30]/~{EMC_CS0} (io), 193 P4[31]/~{EMC_CS1} (io), 206 P5[4]/U0_OE (io)
part D pins: 2 JTAG_TDO (SWO) (out), 4 JTAG_TDI (in), 6 JTAG_TMS (SWDIO) (io), 8 JTAG_~{TRST} (in), 10 JTAG_TCK (SWDCLK) (in), 29 ~{RSTOUT} (out), 34 RTCX1 (in), 35 ~{RESET} (in), 36 RTCX2 (out), 37 RTC_ALARM (out), 44 XTAL1, 46 XTAL2, 52 USB_D-2 (io)
part E pins: 15 VDD(3V3) (power), 20 VDDA (power), 22 VSSA (power), 24 VREFP (power), 26 VDD(REG)(3V3) (power), 32 VSSREG (power), 33 VSS (power), 38 VBAT (power), 60 VDD(3V3) (power), 63 VSS (power), 71 VDD(3V3) (power), 77 VSS (power), 84 VSSREG (power), 86 VDD(REG)(3V3) (power), 89 VDD(3V3) (power), 93 VSS (power), 112 VDD(3V3) (power), 114 VSS (power), 125 VDD(3V3) (power), 133 VSS (power), 146 VDD(3V3) (power), 148 VSS (power), 165 VDD(3V3) (power), 169 VSS (power), 172 VSSREG (power), 174 VDD(REG)(3V3) (power), 181 VDD(3V3) (power), 189 VSS (power), 198 VDD(3V3) (power), 200 VSS (power)

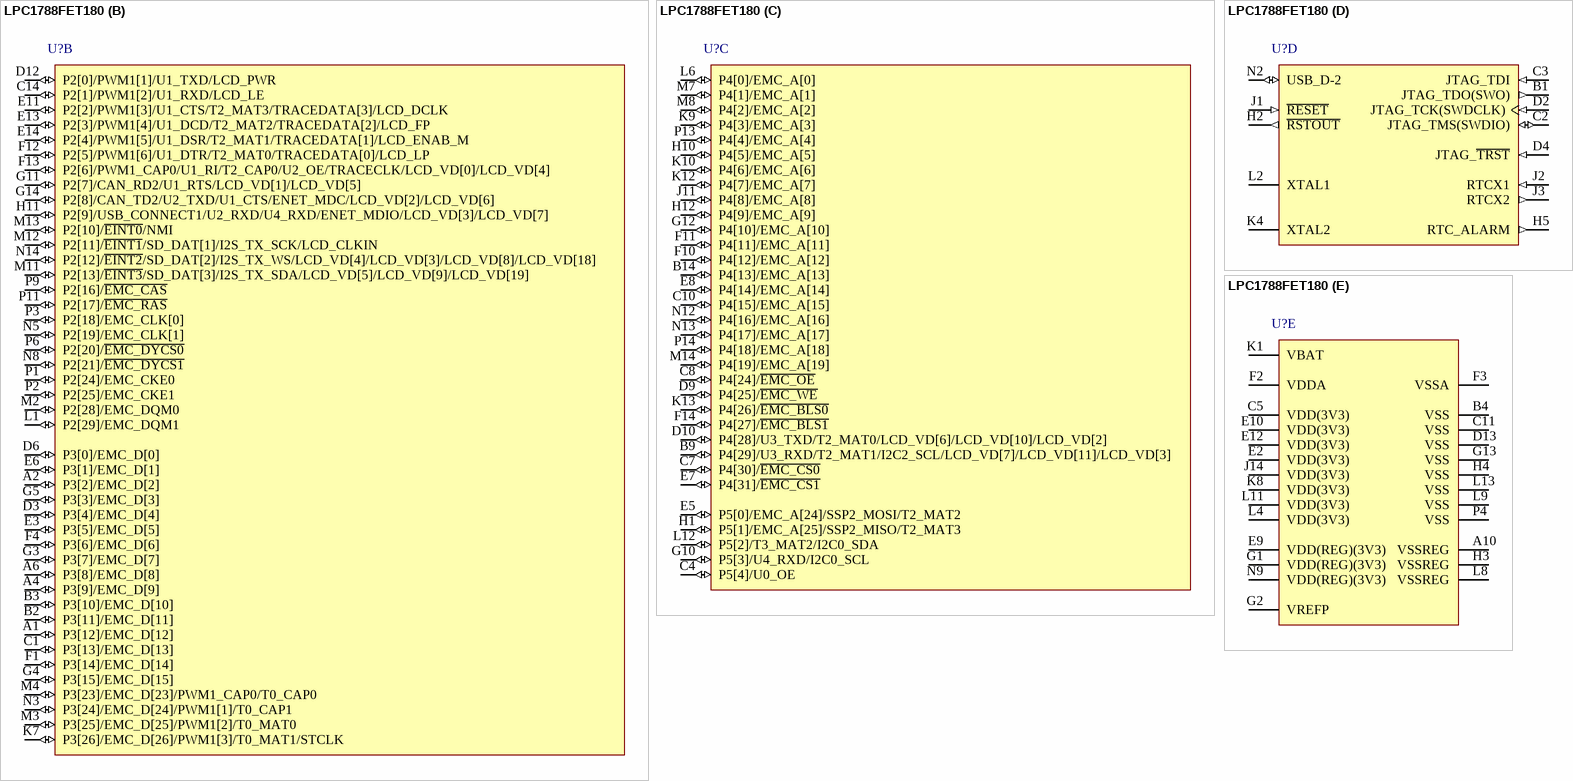
[diagram p30: symbol LPC1788FET180]

## LPC1788FET180
designator U?
32-bit ARM Cortex-M3 MCU, 512 kB Flash, 96 kB SRAM, 4 kB EEPROM, Ethernet, USB 2.0 Host/OTG/Device, CAN, 12-Bit ADC, LCD, SD/MMC, 180-Pin TFBGA; fmax: 120 MHz; SRAM: 96 kB; Flash: 512 kB; EEPROM: 4 kB; GPIOs: 141; USB: 1; CAN: 2; UART: 5; I2C: 3; PWM: 6; PLL: Y; ADC channels: 8; Timers: 4; VDD (min): 2.4 V; VDD (typ): 3.3 V; VDD (max): 3.6 V; DatasheetVersion: Rev. 3, Dec-2011; PackageVersion: Apr-2010; PackageReference: SOT570-3; PackageDescription: TFBGA180: Thin Fine-Pitch Ball Grid Array Package; 180 Balls; Body 12 x 12 x 0.71 mm; SSP: 3; ComponentLink1Description: Manufacturer URL; ComponentLink1URL: http://www.nxp.com/; ComponentLink2Description: Datasheet; ComponentLink2URL: http://www.nxp.com/documents/data_sheet/LPC178X_7X.pdf
footprint SOT570-3 (BGA, 180-Leads, Body 12x12mm, Pitch 0.8mm)
part A pins: A3 P0[3]/U0_RXD/U3_RXD (io), A5 P1[1]/ENET_TXD1/T3_MAT3/SSP2_MOSI (io), A7 P1[10]/ENET_RXD1/T3_CAP0 (io), A8 P1[15]/ENET_RX_CLK (ENET_REF_CLK)/I2C2_SDA (io), A9 P1[3]/ENET_TXD3/SD_CMD/PWM0[2] (io), A11 P0[4]/I2S_RX_SCK/CAN_RD2/T2_CAP0/LCD_VD[0] (io), A12 P1[11]/ENET_RXD2/SD_DAT[2]/PWM0[6] (io), A13 P0[9]/I2S_TX_SDA/SSP1_MOSI/T2_MAT3/RTC_EV2/LCD_VD[17] (io), A14 P1[12]/ENET_RXD3/SD_DAT[3]/PWM0_CAP0 (io), B5 P1[0]/ENET_TXD0/T3_CAP1/SSP2_SCK (io), B6 P1[8]/ENET_CRS (ENET_CRS_DV)/T3_MAT1/SSP2_SSEL (io), B7 P1[2]/ENET_TXD2/SD_CLK/PWM0[1] (io), B8 P1[16]/ENET_MDC/I2S_TX_MCLK (io), B10 P1[6]/ENET_TX_CLK/SD_DAT[0]/PWM0[4] (io), B11 P0[5]/I2S_RX_WS/CAN_TD2/T2_CAP1/LCD_VD[1] (io), B12 P0[7]/I2S_TX_SCK/SSP1_SCK/T2_MAT1/RTC_EV0/LCD_VD[9] (io), B13 P1[5]/ENET_TX_ER/SD_PWR/PWM0[3] (io), C6 P1[4]/ENET_TX_EN/T3_MAT2/SSP2_MISO (io), C9 P1[17]/ENET_MDIO/I2S_RX_MCLK (io), C12 P0[8]/I2S_TX_WS/SSP1_MISO/T2_MAT2/RTC_EV1/LCD_VD[16] (io), C13 P1[7]/ENET_COL/SD_DAT[1]/PWM0[5] (io), D1 P0[26]/ADC0_IN[3]/DAC_OUT/U3_RXD (io), D5 P0[2]/U0_TXD/U3_TXD (io), D7 P1[9]/ENET_RXD0/T3_MAT0 (io), D8 P1[14]/ENET_RX_ER/T2_CAP0 (io), D11 P0[6]/I2S_RX_SDA/SSP1_SSEL/T2_MAT0/U1_RTS/LCD_VD[8] (io), D14 P1[13]/ENET_RX_DV (io), E1 P0[24]/ADC0_IN[1]/I2S_RX_WS/T3_CAP1 (io), E4 P0[25]/ADC0_IN[2]/I2S_RX_SDA/U3_TXD (io), F5 P0[23]/ADC0_IN[0]/I2S_RX_SCK/T3_CAP0 (io), H13 P0[15]/U1_TXD/SSP0_SCK (io), H14 P0[16]/U1_RXD/SSP0_SSEL (io), J4 P0[12]/USB_PPWR2/SSP1_MISO/ADC0_IN[6] (io), J5 P0[13]/USB_UP_LED2/SSP1_MOSI/ADC0_IN[7] (io), J10 P0[19]/U1_DSR/SD_CLK/I2C1_SDA (io), J12 P0[17]/U1_CTS/SSP0_MISO (io), J13 P0[18]/U1_DCD/SSP0_MOSI (io), K2 P1[31]/~{USB_OVRCR2}/SSP1_SCK/ADC0_IN[5]/I2C0_SCL (io), K3 P1[30]/USB_PWRD2/USB_VBUS/ADC0_IN[4]/I2C0_SDA/U3_OE (io), K5 P0[29]/USB_D+1/~{EINT0} (io), K6 P1[20]/USB_TX_DP1/PWM1[2]/QEI_PHA/MC_FB0/SSP0_SCK/LCD_VD[6]/LCD_VD[10] (io), K11 P0[21]/U1_RI/SD_PWR/U4_OE/CAN_RD1/U4_SCLK (io), K14 P0[20]/U1_DTR/UART1/SD_CMD/I2C1_SCL (io), L3 P0[27]/I2C0_SDA/USB_SDA1 (io), L5 P1[18]/USB_UP_LED1/PWM1[1]/T1_CAP0/SSP1_MISO (io), L7 P1[25]/~{USB_LS1}/~{USB_HSTEN1}/T1_MAT1/MC_1A/CLKOUT/LCD_VD[11]/LCD_VD[15] (io), L10 P0[10]/U2_TXD/I2C2_SDA/T3_MAT0 (io), L14 P0[22]/U1_RTS/SD_DAT[0]/U4_TXD/CAN_TD1 (io), M1 P0[28]/I2C0_SCL/USB_SCL1 (io), M5 P0[14]/USB_HSTEN2/SSP1_SSEL/USB_CONNECT2 (io), M6 P1[22]/USB_RCV1/USB_PWRD1/T1_MAT0/MC_0B/SSP1_MOSI/LCD_VD[8]/LCD_VD[12] (io), M9 P1[27]/~{USB_INT1}/~{USB_OVRCR1}/T0_CAP1/CLKOUT/LCD_VD[13]/LCD_VD[21] (io), M10 P0[0]/CAN_RD1/U3_TXD/I2C1_SDA/U0_TXD (io), N1 P0[31]/USB_D+2 (io), N4 P0[30]/USB_D-1/~{EINT1} (io), N6 P1[21]/USB_TX_DM1/PWM1[3]/SSP0_SSEL/~{MC_ABORT}/LCD_VD[7]/LCD_VD[11] (io), N7 P1[23]/USB_RX_DP1/PWM1[4]/QEI_PHB/MC_FB1/SSP0_MISO/LCD_VD[9]/LCD_VD[13] (io), N10 P1[29]/USB_SDA1/PWM1_CAP1/T0_MAT1/MC_2B/U4_TXD/LCD_VD[15]/LCD_VD[23] (io), N11 P0[1]/CAN_TD1/U3_RXD/I2C1_SCL/U0_RXD (io), P5 P1[19]/~{USB_TX_E1}/~{USB_PPWR1}/T1_CAP1/MC_0A/SSP1_SCK/U2_OE (io), P7 P1[24]/USB_RX_DM1/PWM1[5]/QEI_IDX/MC_FB2/SSP0_MOSI/LCD_VD[10]/LCD_VD[14] (io), P8 P1[26]/USB_SSPND1/PWM1[6]/T0_CAP0/MC_1B/SSP1_SSEL/LCD_VD[12]/LCD_VD[20] (io), P10 P1[28]/USB_SCL1/PWM1_CAP0/T0_MAT0/MC_2A/SSP0_SSEL/LCD_VD[14]/LCD_VD[22] (io), P12 P0[11]/U2_RXD/I2C2_SCL/T3_MAT1 (io)
part B pins: A1 P3[12]/EMC_D[12] (io), A2 P3[2]/EMC_D[2] (io), A4 P3[9]/EMC_D[9] (io), A6 P3[8]/EMC_D[8] (io), B2 P3[11]/EMC_D[11] (io), B3 P3[10]/EMC_D[10] (io), C1 P3[13]/EMC_D[13] (io), C14 P2[1]/PWM1[2]/U1_RXD/LCD_LE (io), D3 P3[4]/EMC_D[4] (io), D6 P3[0]/EMC_D[0] (io), D12 P2[0]/PWM1[1]/U1_TXD/LCD_PWR (io), E3 P3[5]/EMC_D[5] (io), E6 P3[1]/EMC_D[1] (io), E11 P2[2]/PWM1[3]/U1_CTS/T2_MAT3/TRACEDATA[3]/LCD_DCLK (io), E13 P2[3]/PWM1[4]/U1_DCD/T2_MAT2/TRACEDATA[2]/LCD_FP (io), E14 P2[4]/PWM1[5]/U1_DSR/T2_MAT1/TRACEDATA[1]/LCD_ENAB_M (io), F1 P3[14]/EMC_D[14] (io), F4 P3[6]/EMC_D[6] (io), F12 P2[5]/PWM1[6]/U1_DTR/T2_MAT0/TRACEDATA[0]/LCD_LP (io), F13 P2[6]/PWM1_CAP0/U1_RI/T2_CAP0/U2_OE/TRACECLK/LCD_VD[0]/LCD_VD[4] (io), G3 P3[7]/EMC_D[7] (io), G4 P3[15]/EMC_D[15] (io), G5 P3[3]/EMC_D[3] (io), G11 P2[7]/CAN_RD2/U1_RTS/LCD_VD[1]/LCD_VD[5] (io), G14 P2[8]/CAN_TD2/U2_TXD/U1_CTS/ENET_MDC/LCD_VD[2]/LCD_VD[6] (io), H11 P2[9]/USB_CONNECT1/U2_RXD/U4_RXD/ENET_MDIO/LCD_VD[3]/LCD_VD[7] (io), K7 P3[26]/EMC_D[26]/PWM1[3]/T0_MAT1/STCLK (io), L1 P2[29]/EMC_DQM1 (io), M2 P2[28]/EMC_DQM0 (io), M3 P3[25]/EMC_D[25]/PWM1[2]/T0_MAT0 (io), M4 P3[23]/EMC_D[23]/PWM1_CAP0/T0_CAP0 (io), M11 P2[13]/~{EINT3}/SD_DAT[3]/I2S_TX_SDA/LCD_VD[5]/LCD_VD[9]/LCD_VD[19] (io), M12 P2[11]/~{EINT1}/SD_DAT[1]/I2S_TX_SCK/LCD_CLKIN (io), M13 P2[10]/~{EINT0}/NMI (io), N3 P3[24]/EMC_D[24]/PWM1[1]/T0_CAP1 (io), N5 P2[19]/EMC_CLK[1] (io), N8 P2[21]/~{EMC_DYCS1} (io), N14 P2[12]/~{EINT2}/SD_DAT[2]/I2S_TX_WS/LCD_VD[4]/LCD_VD[3]/LCD_VD[8]/LCD_VD[18] (io), P1 P2[24]/EMC_CKE0 (io), P2 P2[25]/EMC_CKE1 (io), P3 P2[18]/EMC_CLK[0] (io), P6 P2[20]/~{EMC_DYCS0} (io), P9 P2[16]/~{EMC_CAS} (io), P11 P2[17]/~{EMC_RAS} (io)
part C pins: B9 P4[29]/U3_RXD/T2_MAT1/I2C2_SCL/LCD_VD[7]/LCD_VD[11]/LCD_VD[3] (io), B14 P4[13]/EMC_A[13] (io), C4 P5[4]/U0_OE (io), C7 P4[30]/~{EMC_CS0} (io), C8 P4[24]/~{EMC_OE} (io), C10 P4[15]/EMC_A[15] (io), D9 P4[25]/~{EMC_WE} (io), D10 P4[28]/U3_TXD/T2_MAT0/LCD_VD[6]/LCD_VD[10]/LCD_VD[2] (io), E5 P5[0]/EMC_A[24]/SSP2_MOSI/T2_MAT2 (io), E7 P4[31]/~{EMC_CS1} (io), E8 P4[14]/EMC_A[14] (io), F10 P4[12]/EMC_A[12] (io), F11 P4[11]/EMC_A[11] (io), F14 P4[27]/~{EMC_BLS1} (io), G10 P5[3]/U4_RXD/I2C0_SCL (io), G12 P4[10]/EMC_A[10] (io), H1 P5[1]/EMC_A[25]/SSP2_MISO/T2_MAT3 (io), H10 P4[5]/EMC_A[5] (io), H12 P4[9]/EMC_A[9] (io), J11 P4[8]/EMC_A[8] (io), K9 P4[3]/EMC_A[3] (io), K10 P4[6]/EMC_A[6] (io), K12 P4[7]/EMC_A[7] (io), K13 P4[26]/~{EMC_BLS0} (io), L6 P4[0]/EMC_A[0] (io), L12 P5[2]/T3_MAT2/I2C0_SDA (io), M7 P4[1]/EMC_A[1] (io), M8 P4[2]/EMC_A[2] (io), M14 P4[19]/EMC_A[19] (io), N12 P4[16]/EMC_A[16] (io), N13 P4[17]/EMC_A[17] (io), P13 P4[4]/EMC_A[4] (io), P14 P4[18]/EMC_A[18] (io)
part D pins: B1 JTAG_TDO(SWO) (out), C2 JTAG_TMS(SWDIO) (io), C3 JTAG_TDI (in), D2 JTAG_TCK(SWDCLK) (in), D4 JTAG_~{TRST} (in), H2 ~{RSTOUT} (out), H5 RTC_ALARM (out), J1 ~{RESET} (in), J2 RTCX1 (in), J3 RTCX2 (out), K4 XTAL2, L2 XTAL1, N2 USB_D-2 (io)
part E pins: A10 VSSREG (power), B4 VSS (power), C5 VDD(3V3) (power), C11 VSS (power), D13 VSS (power), E2 VDD(3V3) (power), E9 VDD(REG)(3V3) (power), E10 VDD(3V3) (power), E12 VDD(3V3) (power), F2 VDDA (power), F3 VSSA (power), G1 VDD(REG)(3V3) (power), G2 VREFP (power), G13 VSS (power), H3 VSSREG (power), H4 VSS (power), J14 VDD(3V3) (power), K1 VBAT (power), K8 VDD(3V3) (power), L4 VDD(3V3) (power), L8 VSSREG (power), L9 VSS (power), L11 VDD(3V3) (power), L13 VSS (power), N9 VDD(REG)(3V3) (power), P4 VSS (power)

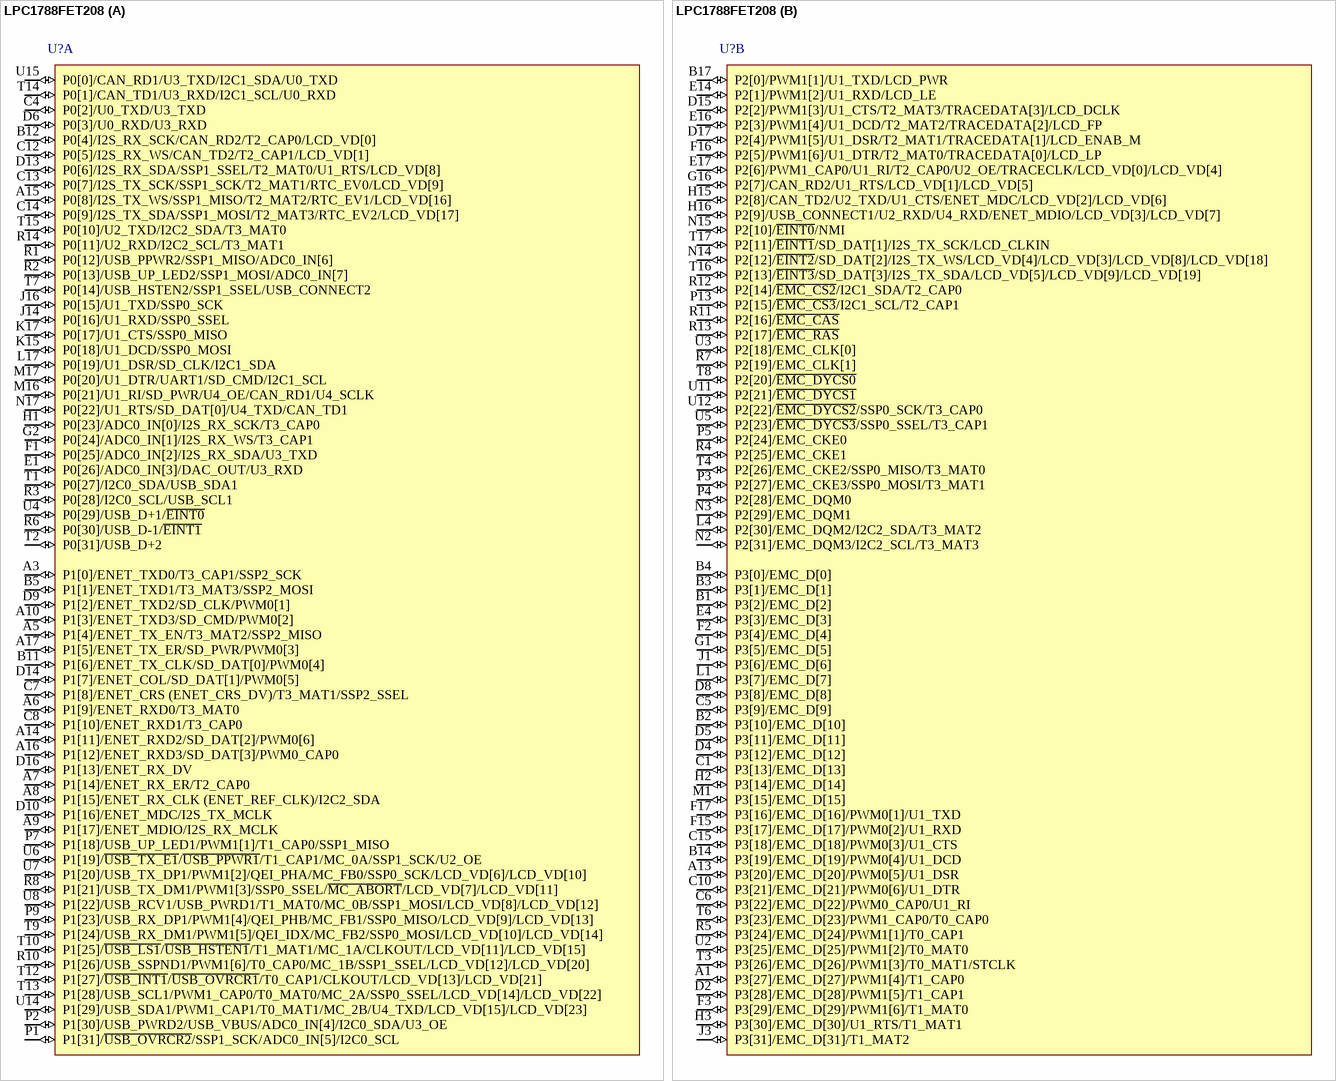
[diagram p31: symbol LPC1788FET208]

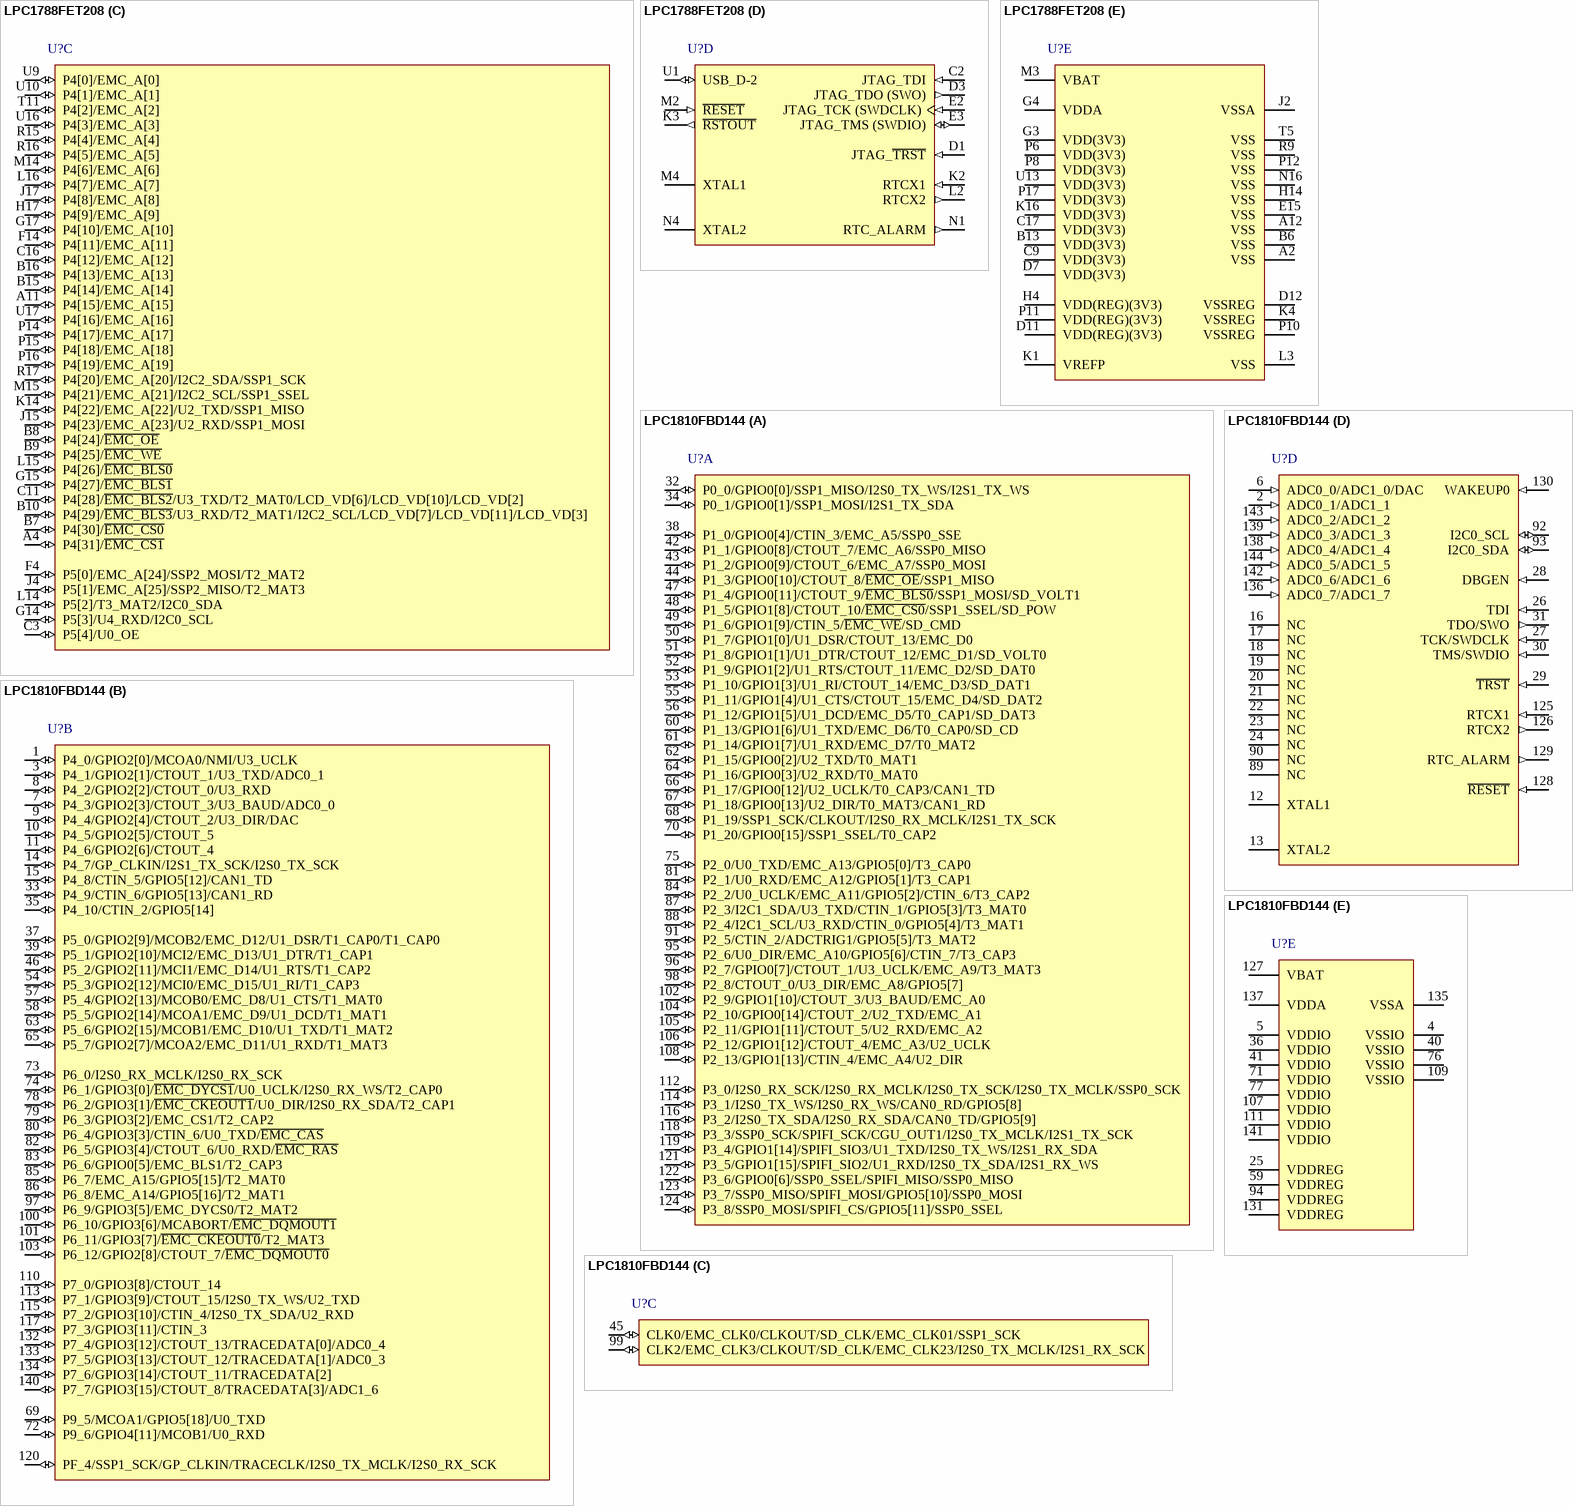
[diagram p32: symbols LPC1788FET208 to LPC1810FBD144]

## LPC1788FET208
designator U?
32-bit ARM Cortex-M3 MCU, 512 kB Flash, 96 kB SRAM, 4 kB EEPROM, Ethernet, USB 2.0 Host/OTG/Device, CAN, 12-Bit ADC, LCD, SD/MMC, 208-Pin TFBGA; fmax: 120 MHz; SRAM: 96 kB; Flash: 512 kB; EEPROM: 4 kB; GPIOs: 165; USB: 1; CAN: 2; UART: 5; I2C: 3; PWM: 6; PLL: Y; ADC channels: 8; Timers: 4; VDD (min): 2.4 V; VDD (typ): 3.3 V; VDD (max): 3.6 V; DatasheetVersion: Rev. 3, Dec-2011; PackageVersion: Jun-2006; PackageReference: SOT950-1; PackageDescription: TFBGA208: Plastic Thin Fine-Pitch Ball Grid Array Package; 208 Balls; Body 15 x 15 x 0.7 mm; SSP: 3; ComponentLink1Description: Manufacturer URL; ComponentLink1URL: http://www.nxp.com/; ComponentLink2Description: Datasheet; ComponentLink2URL: http://www.nxp.com/documents/data_sheet/LPC178X_7X.pdf
footprint SOT950-1 (BGA, 208-Leads, Body 15x15mm, Pitch 0.8mm)
part A pins: A3 P1[0]/ENET_TXD0/T3_CAP1/SSP2_SCK (io), A5 P1[4]/ENET_TX_EN/T3_MAT2/SSP2_MISO (io), A6 P1[9]/ENET_RXD0/T3_MAT0 (io), A7 P1[14]/ENET_RX_ER/T2_CAP0 (io), A8 P1[15]/ENET_RX_CLK (ENET_REF_CLK)/I2C2_SDA (io), A9 P1[17]/ENET_MDIO/I2S_RX_MCLK (io), A10 P1[3]/ENET_TXD3/SD_CMD/PWM0[2] (io), A14 P1[11]/ENET_RXD2/SD_DAT[2]/PWM0[6] (io), A15 P0[8]/I2S_TX_WS/SSP1_MISO/T2_MAT2/RTC_EV1/LCD_VD[16] (io), A16 P1[12]/ENET_RXD3/SD_DAT[3]/PWM0_CAP0 (io), A17 P1[5]/ENET_TX_ER/SD_PWR/PWM0[3] (io), B5 P1[1]/ENET_TXD1/T3_MAT3/SSP2_MOSI (io), B11 P1[6]/ENET_TX_CLK/SD_DAT[0]/PWM0[4] (io), B12 P0[4]/I2S_RX_SCK/CAN_RD2/T2_CAP0/LCD_VD[0] (io), C4 P0[2]/U0_TXD/U3_TXD (io), C7 P1[8]/ENET_CRS (ENET_CRS_DV)/T3_MAT1/SSP2_SSEL (io), C8 P1[10]/ENET_RXD1/T3_CAP0 (io), C12 P0[5]/I2S_RX_WS/CAN_TD2/T2_CAP1/LCD_VD[1] (io), C13 P0[7]/I2S_TX_SCK/SSP1_SCK/T2_MAT1/RTC_EV0/LCD_VD[9] (io), C14 P0[9]/I2S_TX_SDA/SSP1_MOSI/T2_MAT3/RTC_EV2/LCD_VD[17] (io), D6 P0[3]/U0_RXD/U3_RXD (io), D9 P1[2]/ENET_TXD2/SD_CLK/PWM0[1] (io), D10 P1[16]/ENET_MDC/I2S_TX_MCLK (io), D13 P0[6]/I2S_RX_SDA/SSP1_SSEL/T2_MAT0/U1_RTS/LCD_VD[8] (io), D14 P1[7]/ENET_COL/SD_DAT[1]/PWM0[5] (io), D16 P1[13]/ENET_RX_DV (io), E1 P0[26]/ADC0_IN[3]/DAC_OUT/U3_RXD (io), F1 P0[25]/ADC0_IN[2]/I2S_RX_SDA/U3_TXD (io), G2 P0[24]/ADC0_IN[1]/I2S_RX_WS/T3_CAP1 (io), H1 P0[23]/ADC0_IN[0]/I2S_RX_SCK/T3_CAP0 (io), J14 P0[16]/U1_RXD/SSP0_SSEL (io), J16 P0[15]/U1_TXD/SSP0_SCK (io), K15 P0[18]/U1_DCD/SSP0_MOSI (io), K17 P0[17]/U1_CTS/SSP0_MISO (io), L17 P0[19]/U1_DSR/SD_CLK/I2C1_SDA (io), M16 P0[21]/U1_RI/SD_PWR/U4_OE/CAN_RD1/U4_SCLK (io), M17 P0[20]/U1_DTR/UART1/SD_CMD/I2C1_SCL (io), N17 P0[22]/U1_RTS/SD_DAT[0]/U4_TXD/CAN_TD1 (io), P1 P1[31]/~{USB_OVRCR2}/SSP1_SCK/ADC0_IN[5]/I2C0_SCL (io), P2 P1[30]/USB_PWRD2/USB_VBUS/ADC0_IN[4]/I2C0_SDA/U3_OE (io), P7 P1[18]/USB_UP_LED1/PWM1[1]/T1_CAP0/SSP1_MISO (io), P9 P1[23]/USB_RX_DP1/PWM1[4]/QEI_PHB/MC_FB1/SSP0_MISO/LCD_VD[9]/LCD_VD[13] (io), R1 P0[12]/USB_PPWR2/SSP1_MISO/ADC0_IN[6] (io), R2 P0[13]/USB_UP_LED2/SSP1_MOSI/ADC0_IN[7] (io), R3 P0[28]/I2C0_SCL/USB_SCL1 (io), R6 P0[30]/USB_D-1/~{EINT1} (io), R8 P1[21]/USB_TX_DM1/PWM1[3]/SSP0_SSEL/~{MC_ABORT}/LCD_VD[7]/LCD_VD[11] (io), R10 P1[26]/USB_SSPND1/PWM1[6]/T0_CAP0/MC_1B/SSP1_SSEL/LCD_VD[12]/LCD_VD[20] (io), R14 P0[11]/U2_RXD/I2C2_SCL/T3_MAT1 (io), T1 P0[27]/I2C0_SDA/USB_SDA1 (io), T2 P0[31]/USB_D+2 (io), T7 P0[14]/USB_HSTEN2/SSP1_SSEL/USB_CONNECT2 (io), T9 P1[24]/USB_RX_DM1/PWM1[5]/QEI_IDX/MC_FB2/SSP0_MOSI/LCD_VD[10]/LCD_VD[14] (io), T10 P1[25]/~{USB_LS1}/~{USB_HSTEN1}/T1_MAT1/MC_1A/CLKOUT/LCD_VD[11]/LCD_VD[15] (io), T12 P1[27]/~{USB_INT1}/~{USB_OVRCR1}/T0_CAP1/CLKOUT/LCD_VD[13]/LCD_VD[21] (io), T13 P1[28]/USB_SCL1/PWM1_CAP0/T0_MAT0/MC_2A/SSP0_SSEL/LCD_VD[14]/LCD_VD[22] (io), T14 P0[1]/CAN_TD1/U3_RXD/I2C1_SCL/U0_RXD (io), T15 P0[10]/U2_TXD/I2C2_SDA/T3_MAT0 (io), U4 P0[29]/USB_D+1/~{EINT0} (io), U6 P1[19]/~{USB_TX_E1}/~{USB_PPWR1}/T1_CAP1/MC_0A/SSP1_SCK/U2_OE (io), U7 P1[20]/USB_TX_DP1/PWM1[2]/QEI_PHA/MC_FB0/SSP0_SCK/LCD_VD[6]/LCD_VD[10] (io), U8 P1[22]/USB_RCV1/USB_PWRD1/T1_MAT0/MC_0B/SSP1_MOSI/LCD_VD[8]/LCD_VD[12] (io), U14 P1[29]/USB_SDA1/PWM1_CAP1/T0_MAT1/MC_2B/U4_TXD/LCD_VD[15]/LCD_VD[23] (io), U15 P0[0]/CAN_RD1/U3_TXD/I2C1_SDA/U0_TXD (io)
part B pins: A1 P3[27]/EMC_D[27]/PWM1[4]/T1_CAP0 (io), A13 P3[20]/EMC_D[20]/PWM0[5]/U1_DSR (io), B1 P3[2]/EMC_D[2] (io), B2 P3[10]/EMC_D[10] (io), B3 P3[1]/EMC_D[1] (io), B4 P3[0]/EMC_D[0] (io), B14 P3[19]/EMC_D[19]/PWM0[4]/U1_DCD (io), B17 P2[0]/PWM1[1]/U1_TXD/LCD_PWR (io), C1 P3[13]/EMC_D[13] (io), C5 P3[9]/EMC_D[9] (io), C6 P3[22]/EMC_D[22]/PWM0_CAP0/U1_RI (io), C10 P3[21]/EMC_D[21]/PWM0[6]/U1_DTR (io), C15 P3[18]/EMC_D[18]/PWM0[3]/U1_CTS (io), D2 P3[28]/EMC_D[28]/PWM1[5]/T1_CAP1 (io), D4 P3[12]/EMC_D[12] (io), D5 P3[11]/EMC_D[11] (io), D8 P3[8]/EMC_D[8] (io), D15 P2[2]/PWM1[3]/U1_CTS/T2_MAT3/TRACEDATA[3]/LCD_DCLK (io), D17 P2[4]/PWM1[5]/U1_DSR/T2_MAT1/TRACEDATA[1]/LCD_ENAB_M (io), E4 P3[3]/EMC_D[3] (io), E14 P2[1]/PWM1[2]/U1_RXD/LCD_LE (io), E16 P2[3]/PWM1[4]/U1_DCD/T2_MAT2/TRACEDATA[2]/LCD_FP (io), E17 P2[6]/PWM1_CAP0/U1_RI/T2_CAP0/U2_OE/TRACECLK/LCD_VD[0]/LCD_VD[4] (io), F2 P3[4]/EMC_D[4] (io), F3 P3[29]/EMC_D[29]/PWM1[6]/T1_MAT0 (io), F15 P3[17]/EMC_D[17]/PWM0[2]/U1_RXD (io), F16 P2[5]/PWM1[6]/U1_DTR/T2_MAT0/TRACEDATA[0]/LCD_LP (io), F17 P3[16]/EMC_D[16]/PWM0[1]/U1_TXD (io), G1 P3[5]/EMC_D[5] (io), G16 P2[7]/CAN_RD2/U1_RTS/LCD_VD[1]/LCD_VD[5] (io), H2 P3[14]/EMC_D[14] (io), H3 P3[30]/EMC_D[30]/U1_RTS/T1_MAT1 (io), H15 P2[8]/CAN_TD2/U2_TXD/U1_CTS/ENET_MDC/LCD_VD[2]/LCD_VD[6] (io), H16 P2[9]/USB_CONNECT1/U2_RXD/U4_RXD/ENET_MDIO/LCD_VD[3]/LCD_VD[7] (io), J1 P3[6]/EMC_D[6] (io), J3 P3[31]/EMC_D[31]/T1_MAT2 (io), L1 P3[7]/EMC_D[7] (io), L4 P2[30]/EMC_DQM2/I2C2_SDA/T3_MAT2 (io), M1 P3[15]/EMC_D[15] (io), N2 P2[31]/EMC_DQM3/I2C2_SCL/T3_MAT3 (io), N3 P2[29]/EMC_DQM1 (io), N14 P2[12]/~{EINT2}/SD_DAT[2]/I2S_TX_WS/LCD_VD[4]/LCD_VD[3]/LCD_VD[8]/LCD_VD[18] (io), N15 P2[10]/~{EINT0}/NMI (io), P3 P2[27]/EMC_CKE3/SSP0_MOSI/T3_MAT1 (io), P4 P2[28]/EMC_DQM0 (io), P5 P2[24]/EMC_CKE0 (io), P13 P2[15]/~{EMC_CS3}/I2C1_SCL/T2_CAP1 (io), R4 P2[25]/EMC_CKE1 (io), R5 P3[24]/EMC_D[24]/PWM1[1]/T0_CAP1 (io), R7 P2[19]/EMC_CLK[1] (io), R11 P2[16]/~{EMC_CAS} (io), R12 P2[14]/~{EMC_CS2}/I2C1_SDA/T2_CAP0 (io), R13 P2[17]/~{EMC_RAS} (io), T3 P3[26]/EMC_D[26]/PWM1[3]/T0_MAT1/STCLK (io), T4 P2[26]/EMC_CKE2/SSP0_MISO/T3_MAT0 (io), T6 P3[23]/EMC_D[23]/PWM1_CAP0/T0_CAP0 (io), T8 P2[20]/~{EMC_DYCS0} (io), T16 P2[13]/~{EINT3}/SD_DAT[3]/I2S_TX_SDA/LCD_VD[5]/LCD_VD[9]/LCD_VD[19] (io), T17 P2[11]/~{EINT1}/SD_DAT[1]/I2S_TX_SCK/LCD_CLKIN (io), U2 P3[25]/EMC_D[25]/PWM1[2]/T0_MAT0 (io), U3 P2[18]/EMC_CLK[0] (io), U5 P2[23]/~{EMC_DYCS3}/SSP0_SSEL/T3_CAP1 (io), U11 P2[21]/~{EMC_DYCS1} (io), U12 P2[22]/~{EMC_DYCS2}/SSP0_SCK/T3_CAP0 (io)
part C pins: A4 P4[31]/~{EMC_CS1} (io), A11 P4[15]/EMC_A[15] (io), B7 P4[30]/~{EMC_CS0} (io), B8 P4[24]/~{EMC_OE} (io), B9 P4[25]/~{EMC_WE} (io), B10 P4[29]/~{EMC_BLS3}/U3_RXD/T2_MAT1/I2C2_SCL/LCD_VD[7]/LCD_VD[11]/LCD_VD[3] (io), B15 P4[14]/EMC_A[14] (io), B16 P4[13]/EMC_A[13] (io), C3 P5[4]/U0_OE (io), C11 P4[28]/~{EMC_BLS2}/U3_TXD/T2_MAT0/LCD_VD[6]/LCD_VD[10]/LCD_VD[2] (io), C16 P4[12]/EMC_A[12] (io), F4 P5[0]/EMC_A[24]/SSP2_MOSI/T2_MAT2 (io), F14 P4[11]/EMC_A[11] (io), G14 P5[3]/U4_RXD/I2C0_SCL (io), G15 P4[27]/~{EMC_BLS1} (io), G17 P4[10]/EMC_A[10] (io), H17 P4[9]/EMC_A[9] (io), J4 P5[1]/EMC_A[25]/SSP2_MISO/T2_MAT3 (io), J15 P4[23]/EMC_A[23]/U2_RXD/SSP1_MOSI (io), J17 P4[8]/EMC_A[8] (io), K14 P4[22]/EMC_A[22]/U2_TXD/SSP1_MISO (io), L14 P5[2]/T3_MAT2/I2C0_SDA (io), L15 P4[26]/~{EMC_BLS0} (io), L16 P4[7]/EMC_A[7] (io), M14 P4[6]/EMC_A[6] (io), M15 P4[21]/EMC_A[21]/I2C2_SCL/SSP1_SSEL (io), P14 P4[17]/EMC_A[17] (io), P15 P4[18]/EMC_A[18] (io), P16 P4[19]/EMC_A[19] (io), R15 P4[4]/EMC_A[4] (io), R16 P4[5]/EMC_A[5] (io), R17 P4[20]/EMC_A[20]/I2C2_SDA/SSP1_SCK (io), T11 P4[2]/EMC_A[2] (io), U9 P4[0]/EMC_A[0] (io), U10 P4[1]/EMC_A[1] (io), U16 P4[3]/EMC_A[3] (io), U17 P4[16]/EMC_A[16] (io)
part D pins: C2 JTAG_TDI (in), D1 JTAG_~{TRST} (in), D3 JTAG_TDO (SWO) (out), E2 JTAG_TCK (SWDCLK) (in), E3 JTAG_TMS (SWDIO) (io), K2 RTCX1 (in), K3 ~{RSTOUT} (out), L2 RTCX2 (out), M2 ~{RESET} (in), M4 XTAL1, N1 RTC_ALARM (out), N4 XTAL2, U1 USB_D-2 (io)
part E pins: A2 VSS (power), A12 VSS (power), B6 VSS (power), B13 VDD(3V3) (power), C9 VDD(3V3) (power), C17 VDD(3V3) (power), D7 VDD(3V3) (power), D11 VDD(REG)(3V3) (power), D12 VSSREG (power), E15 VSS (power), G3 VDD(3V3) (power), G4 VDDA (power), H4 VDD(REG)(3V3) (power), H14 VSS (power), J2 VSSA (power), K1 VREFP (power), K4 VSSREG (power), K16 VDD(3V3) (power), L3 VSS (power), M3 VBAT (power), N16 VSS (power), P6 VDD(3V3) (power), P8 VDD(3V3) (power), P10 VSSREG (power), P11 VDD(REG)(3V3) (power), P12 VSS (power), P17 VDD(3V3) (power), R9 VSS (power), T5 VSS (power), U13 VDD(3V3) (power)

## LPC1810FBD144
designator U?
32-bit ARM Cortex-M3 MCU, 136 kB SRAM, CAN, AES, SPIFI, SCT, 144-Pin LQFP; fmax: 180 MHz; SRAM: 136 kB; GPIOs: 83; CAN: 2; UART: 4; I2C: 1; PLL: Y; ADC channels: 8; VDD (min): 2.2 V; VDD (typ): 3.3 V; VDD (max): 3.6 V; Code_IEC: 136E23; DatasheetVersion: Rev. 3.1, Dec-2011; PackageVersion: Feb-2003; PackageReference: SOT486-1; PackageDescription: LQFP144: Plastic Low Profile Quad Flat Package; 144 Leads; Body 20 x 20 x 1.4 mm; SPI: 1; PWM: 1; Timers: 4; Code_JEDEC: MS-026; ComponentLink1Description: Manufacturer URL; ComponentLink1URL: http://www.nxp.com/; ComponentLink2Description: Datasheet; ComponentLink2URL: http://www.nxp.com/documents/data_sheet/LPC1850_30_20_10.pdf
footprint SOT486-1_V (Thin QFP, 144-Leads, Body 20x20mm, Pitch 0.5mm, NXP Recommended)
footprint SOT486-1_N (Thin QFP, 144-Leads, Body 20x20mm, Pitch 0.5mm, IPC Medium Density)
footprint SOT486-1_L (Thin QFP, 144-Leads, Body 20x20mm, Pitch 0.5mm, IPC High Density)
footprint SOT486-1_M (Thin QFP, 144-Leads, Body 20x20mm, Pitch 0.5mm, IPC Low Density)
part A pins: 32 P0_0/GPIO0[0]/SSP1_MISO/I2S0_TX_WS/I2S1_TX_WS (io), 34 P0_1/GPIO0[1]/SSP1_MOSI/I2S1_TX_SDA (io), 38 P1_0/GPIO0[4]/CTIN_3/EMC_A5/SSP0_SSE (io), 42 P1_1/GPIO0[8]/CTOUT_7/EMC_A6/SSP0_MISO (io), 43 P1_2/GPIO0[9]/CTOUT_6/EMC_A7/SSP0_MOSI (io), 44 P1_3/GPIO0[10]/CTOUT_8/~{EMC_OE}/SSP1_MISO (io), 47 P1_4/GPIO0[11]/CTOUT_9/~{EMC_BLS0}/SSP1_MOSI/SD_VOLT1 (io), 48 P1_5/GPIO1[8]/CTOUT_10/~{EMC_CS0}/SSP1_SSEL/SD_POW (io), 49 P1_6/GPIO1[9]/CTIN_5/~{EMC_WE}/SD_CMD (io), 50 P1_7/GPIO1[0]/U1_DSR/CTOUT_13/EMC_D0 (io), 51 P1_8/GPIO1[1]/U1_DTR/CTOUT_12/EMC_D1/SD_VOLT0 (io), 52 P1_9/GPIO1[2]/U1_RTS/CTOUT_11/EMC_D2/SD_DAT0 (io), 53 P1_10/GPIO1[3]/U1_RI/CTOUT_14/EMC_D3/SD_DAT1 (io), 55 P1_11/GPIO1[4]/U1_CTS/CTOUT_15/EMC_D4/SD_DAT2 (io), 56 P1_12/GPIO1[5]/U1_DCD/EMC_D5/T0_CAP1/SD_DAT3 (io), 60 P1_13/GPIO1[6]/U1_TXD/EMC_D6/T0_CAP0/SD_CD (io), 61 P1_14/GPIO1[7]/U1_RXD/EMC_D7/T0_MAT2 (io), 62 P1_15/GPIO0[2]/U2_TXD/T0_MAT1 (io), 64 P1_16/GPIO0[3]/U2_RXD/T0_MAT0 (io), 66 P1_17/GPIO0[12]/U2_UCLK/T0_CAP3/CAN1_TD (io), 67 P1_18/GPIO0[13]/U2_DIR/T0_MAT3/CAN1_RD (io), 68 P1_19/SSP1_SCK/CLKOUT/I2S0_RX_MCLK/I2S1_TX_SCK (io), 70 P1_20/GPIO0[15]/SSP1_SSEL/T0_CAP2 (io), 75 P2_0/U0_TXD/EMC_A13/GPIO5[0]/T3_CAP0 (io), 81 P2_1/U0_RXD/EMC_A12/GPIO5[1]/T3_CAP1 (io), 84 P2_2/U0_UCLK/EMC_A11/GPIO5[2]/CTIN_6/T3_CAP2 (io), 87 P2_3/I2C1_SDA/U3_TXD/CTIN_1/GPIO5[3]/T3_MAT0 (io), 88 P2_4/I2C1_SCL/U3_RXD/CTIN_0/GPIO5[4]/T3_MAT1 (io), 91 P2_5/CTIN_2/ADCTRIG1/GPIO5[5]/T3_MAT2 (io), 95 P2_6/U0_DIR/EMC_A10/GPIO5[6]/CTIN_7/T3_CAP3 (io), 96 P2_7/GPIO0[7]/CTOUT_1/U3_UCLK/EMC_A9/T3_MAT3 (io), 98 P2_8/CTOUT_0/U3_DIR/EMC_A8/GPIO5[7] (io), 102 P2_9/GPIO1[10]/CTOUT_3/U3_BAUD/EMC_A0 (io), 104 P2_10/GPIO0[14]/CTOUT_2/U2_TXD/EMC_A1 (io), 105 P2_11/GPIO1[11]/CTOUT_5/U2_RXD/EMC_A2 (io), 106 P2_12/GPIO1[12]/CTOUT_4/EMC_A3/U2_UCLK (io), 108 P2_13/GPIO1[13]/CTIN_4/EMC_A4/U2_DIR (io), 112 P3_0/I2S0_RX_SCK/I2S0_RX_MCLK/I2S0_TX_SCK/I2S0_TX_MCLK/SSP0_SCK (io), 114 P3_1/I2S0_TX_WS/I2S0_RX_WS/CAN0_RD/GPIO5[8] (io), 116 P3_2/I2S0_TX_SDA/I2S0_RX_SDA/CAN0_TD/GPIO5[9] (io), 118 P3_3/SSP0_SCK/SPIFI_SCK/CGU_OUT1/I2S0_TX_MCLK/I2S1_TX_SCK (io), 119 P3_4/GPIO1[14]/SPIFI_SIO3/U1_TXD/I2S0_TX_WS/I2S1_RX_SDA (io), 121 P3_5/GPIO1[15]/SPIFI_SIO2/U1_RXD/I2S0_TX_SDA/I2S1_RX_WS (io), 122 P3_6/GPIO0[6]/SSP0_SSEL/SPIFI_MISO/SSP0_MISO (io), 123 P3_7/SSP0_MISO/SPIFI_MOSI/GPIO5[10]/SSP0_MOSI (io), 124 P3_8/SSP0_MOSI/SPIFI_CS/GPIO5[11]/SSP0_SSEL (io)
part B pins: 1 P4_0/GPIO2[0]/MCOA0/NMI/U3_UCLK (io), 3 P4_1/GPIO2[1]/CTOUT_1/U3_TXD/ADC0_1 (io), 7 P4_3/GPIO2[3]/CTOUT_3/U3_BAUD/ADC0_0 (io), 8 P4_2/GPIO2[2]/CTOUT_0/U3_RXD (io), 9 P4_4/GPIO2[4]/CTOUT_2/U3_DIR/DAC (io), 10 P4_5/GPIO2[5]/CTOUT_5 (io), 11 P4_6/GPIO2[6]/CTOUT_4 (io), 14 P4_7/GP_CLKIN/I2S1_TX_SCK/I2S0_TX_SCK (io), 15 P4_8/CTIN_5/GPIO5[12]/CAN1_TD (io), 33 P4_9/CTIN_6/GPIO5[13]/CAN1_RD (io), 35 P4_10/CTIN_2/GPIO5[14] (io), 37 P5_0/GPIO2[9]/MCOB2/EMC_D12/U1_DSR/T1_CAP0/T1_CAP0 (io), 39 P5_1/GPIO2[10]/MCI2/EMC_D13/U1_DTR/T1_CAP1 (io), 46 P5_2/GPIO2[11]/MCI1/EMC_D14/U1_RTS/T1_CAP2 (io), 54 P5_3/GPIO2[12]/MCI0/EMC_D15/U1_RI/T1_CAP3 (io), 57 P5_4/GPIO2[13]/MCOB0/EMC_D8/U1_CTS/T1_MAT0 (io), 58 P5_5/GPIO2[14]/MCOA1/EMC_D9/U1_DCD/T1_MAT1 (io), 63 P5_6/GPIO2[15]/MCOB1/EMC_D10/U1_TXD/T1_MAT2 (io), 65 P5_7/GPIO2[7]/MCOA2/EMC_D11/U1_RXD/T1_MAT3 (io), 69 P9_5/MCOA1/GPIO5[18]/U0_TXD (io), 72 P9_6/GPIO4[11]/MCOB1/U0_RXD (io), 73 P6_0/I2S0_RX_MCLK/I2S0_RX_SCK (io), 74 P6_1/GPIO3[0]/~{EMC_DYCS1}/U0_UCLK/I2S0_RX_WS/T2_CAP0 (io), 78 P6_2/GPIO3[1]/~{EMC_CKEOUT1}/U0_DIR/I2S0_RX_SDA/T2_CAP1 (io), 79 P6_3/GPIO3[2]/EMC_CS1/T2_CAP2 (io), 80 P6_4/GPIO3[3]/CTIN_6/U0_TXD/~{EMC_CAS} (io), 82 P6_5/GPIO3[4]/CTOUT_6/U0_RXD/~{EMC_RAS} (io), 83 P6_6/GPIO0[5]/EMC_BLS1/T2_CAP3 (io), 85 P6_7/EMC_A15/GPIO5[15]/T2_MAT0 (io), 86 P6_8/EMC_A14/GPIO5[16]/T2_MAT1 (io), 97 P6_9/GPIO3[5]/EMC_DYCS0/T2_MAT2 (io), 100 P6_10/GPIO3[6]/MCABORT/~{EMC_DQMOUT1} (io), 101 P6_11/GPIO3[7]/~{EMC_CKEOUT0}/T2_MAT3 (io), 103 P6_12/GPIO2[8]/CTOUT_7/~{EMC_DQMOUT0} (io), 110 P7_0/GPIO3[8]/CTOUT_14 (io), 113 P7_1/GPIO3[9]/CTOUT_15/I2S0_TX_WS/U2_TXD (io), 115 P7_2/GPIO3[10]/CTIN_4/I2S0_TX_SDA/U2_RXD (io), 117 P7_3/GPIO3[11]/CTIN_3 (io), 120 PF_4/SSP1_SCK/GP_CLKIN/TRACECLK/I2S0_TX_MCLK/I2S0_RX_SCK (io), 132 P7_4/GPIO3[12]/CTOUT_13/TRACEDATA[0]/ADC0_4 (io), 133 P7_5/GPIO3[13]/CTOUT_12/TRACEDATA[1]/ADC0_3 (io), 134 P7_6/GPIO3[14]/CTOUT_11/TRACEDATA[2] (io), 140 P7_7/GPIO3[15]/CTOUT_8/TRACEDATA[3]/ADC1_6 (io)
part C pins: 45 CLK0/EMC_CLK0/CLKOUT/SD_CLK/EMC_CLK01/SSP1_SCK (io), 99 CLK2/EMC_CLK3/CLKOUT/SD_CLK/EMC_CLK23/I2S0_TX_MCLK/I2S1_RX_SCK (io)
part D pins: 2 ADC0_1/ADC1_1 (in), 6 ADC0_0/ADC1_0/DAC (in), 12 XTAL1, 13 XTAL2, 16 NC, 17 NC, 18 NC, 19 NC, 20 NC, 21 NC, 22 NC, 23 NC, 24 NC, 26 TDI (in), 27 TCK/SWDCLK (in), 28 DBGEN (in), 29 ~{TRST} (in), 30 TMS/SWDIO (in), 31 TDO/SWO (out), 89 NC, 90 NC, 92 I2C0_SCL (io), 93 I2C0_SDA (io), 125 RTCX1 (in), 126 RTCX2 (out), 128 ~{RESET} (in), 129 RTC_ALARM (out), 130 WAKEUP0 (in), 136 ADC0_7/ADC1_7 (in), 138 ADC0_4/ADC1_4 (in), 139 ADC0_3/ADC1_3 (in), 142 ADC0_6/ADC1_6 (in), 143 ADC0_2/ADC1_2 (in), 144 ADC0_5/ADC1_5 (in)
part E pins: 4 VSSIO (power), 5 VDDIO (power), 25 VDDREG (power), 36 VDDIO (power), 40 VSSIO (power), 41 VDDIO (power), 59 VDDREG (power), 71 VDDIO (power), 76 VSSIO (power), 77 VDDIO (power), 94 VDDREG (power), 107 VDDIO (power), 109 VSSIO (power), 111 VDDIO (power), 127 VBAT (power), 131 VDDREG (power), 135 VSSA (power), 137 VDDA (power), 141 VDDIO (power)

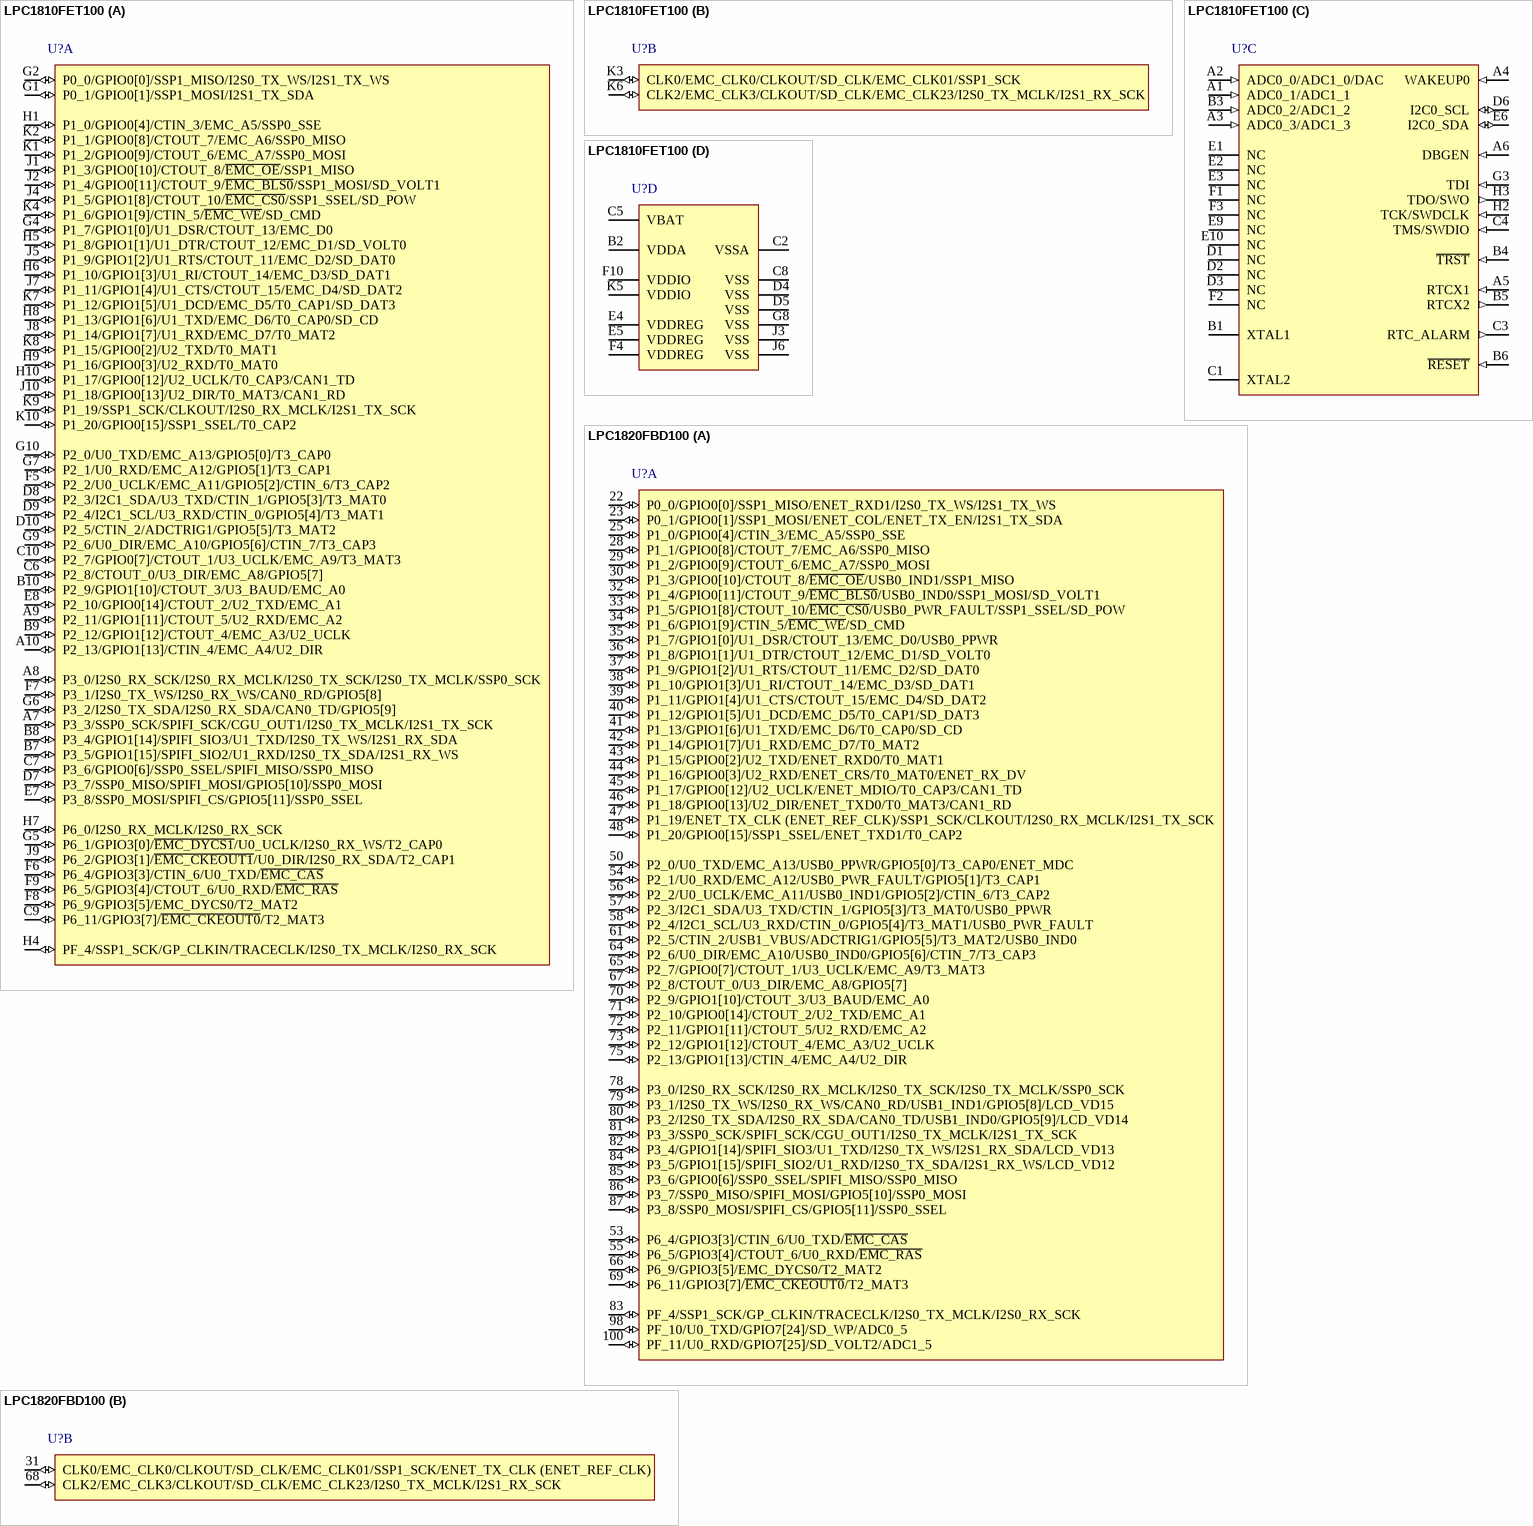
[diagram p33: symbols LPC1810FET100 to LPC1820FBD100]